# Altium schematic symbol library 74xx.SchLib: 239 symbols (part 2 of 3)
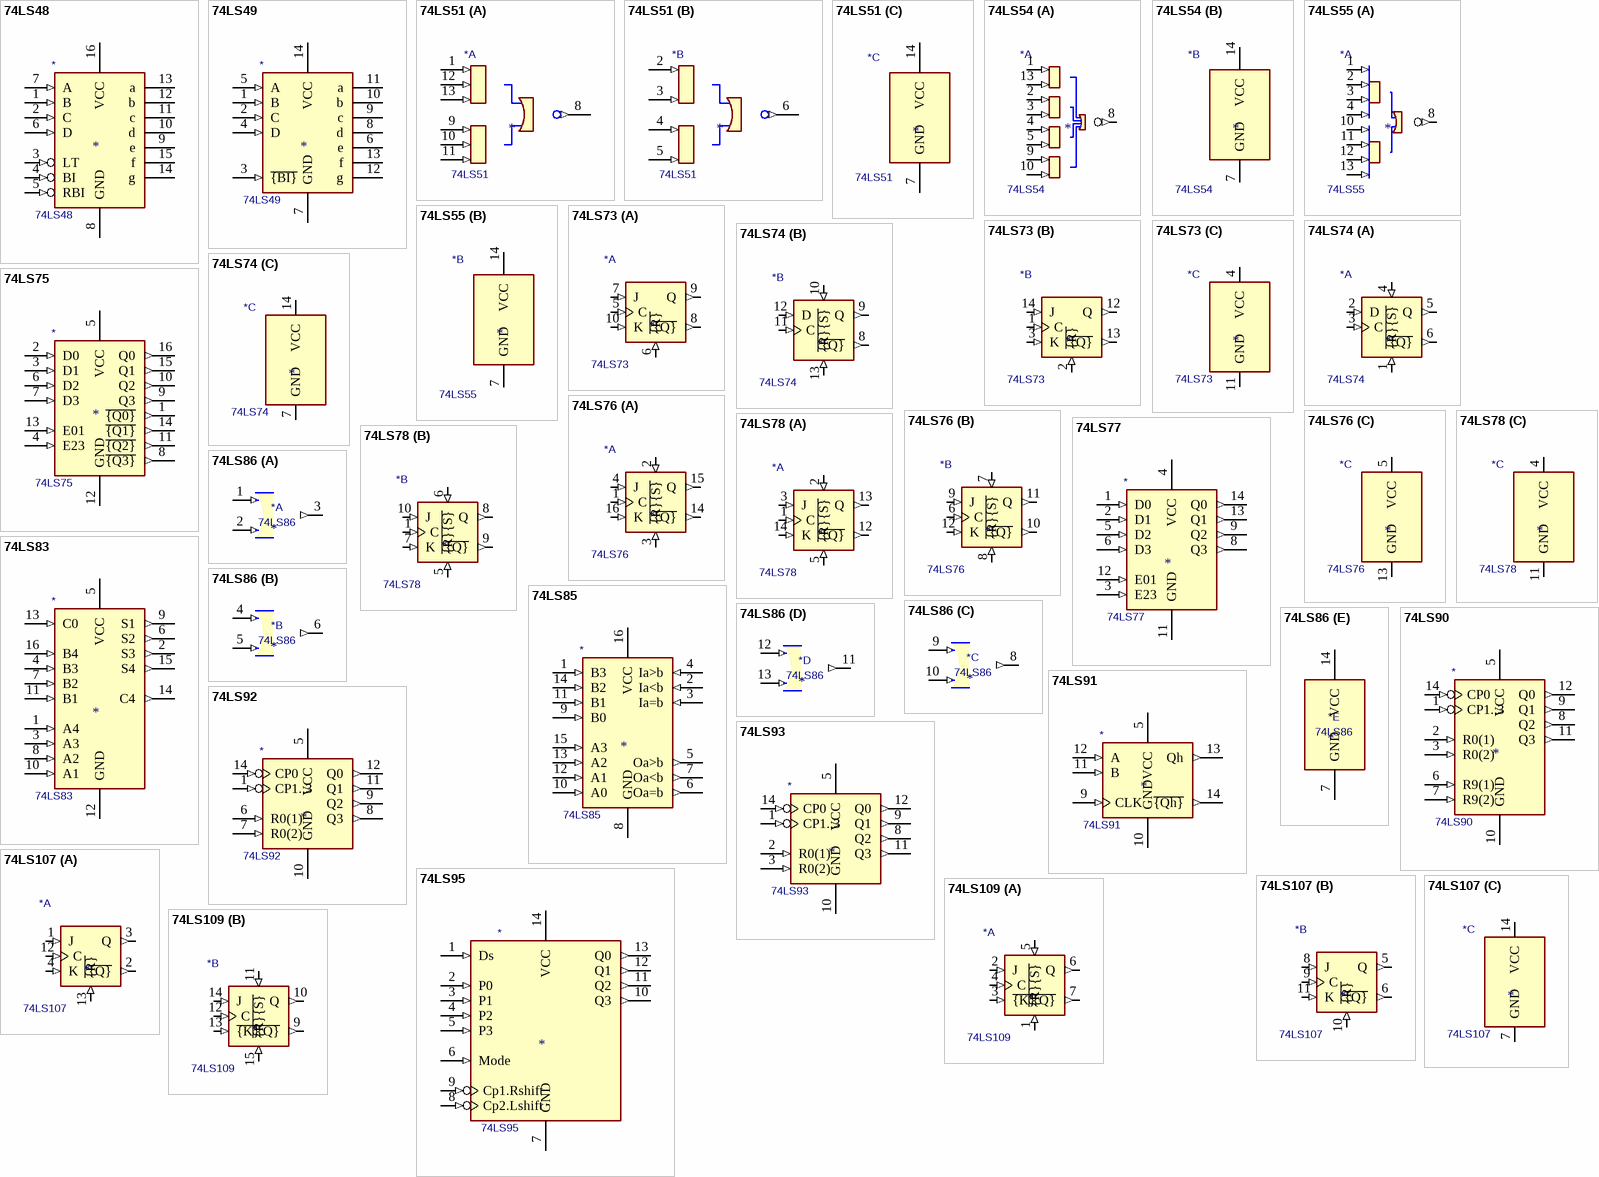
[diagram p14: symbols 74LS48 to 74LS109]

## 74LS83
designator *  value 74LS83
ki_keywords: TTL ADD ARITH ALU; ki_description: 4-bit Full Adder; ki_fp_filters: DIP?16*; Supplier: http://www.ti.com/lit/gpn/sn74LS83
pins: 1 A4 (in), 2 S3 (out), 3 A3 (in), 4 B3 (in), 5 VCC (power), 6 S2 (out), 7 B2 (in), 8 A2 (in), 9 S1 (out), 10 A1 (in), 11 B1 (in), 12 GND (power), 13 C0 (in), 14 C4 (out), 15 S4 (out), 16 B4 (in)

## 74LS85
designator *  value 74LS85
ki_keywords: TTL COMP ARITH; ki_description: 4-bit Comparator; ki_fp_filters: DIP?16*; Supplier: http://www.ti.com/lit/gpn/sn74LS85
pins: 1 B3 (in), 2 Ia<b (in), 3 Ia=b (in), 4 Ia>b (in), 5 Oa>b (out), 6 Oa=b (out), 7 Oa<b (out), 8 GND (power), 9 B0 (in), 10 A0 (in), 11 B1 (in), 12 A1 (in), 13 A2 (in), 14 B2 (in), 15 A3 (in), 16 VCC (power)

## 74LS86
designator *  value 74LS86
ki_keywords: TTL XOR2; ki_description: Quad 2-input XOR; ki_fp_filters: DIP*W7.62mm*; Supplier: 74xx/74ls86.pdf
part A pins: 1 (in), 2 (in), 3 (out)
part B pins: 4 (in), 5 (in), 6 (out)
part C pins: 8 (out), 9 (in), 10 (in)
part D pins: 11 (out), 12 (in), 13 (in)
part E pins: 7 GND (power), 14 VCC (power)

## 74LS90
designator *  value 74LS90
ki_keywords: TTL CNT CNT4; ki_description: BCD Counter ( div 2 & div 5 ); ki_fp_filters: DIP?12*; Supplier: http://www.ti.com/lit/gpn/sn74LS90
pins: 1 CP1..3 (in), 2 R0(1) (in), 3 R0(2) (in), 5 VCC (power), 6 R9(1) (in), 7 R9(2) (in), 8 Q2 (out), 9 Q1 (out), 10 GND (power), 11 Q3 (out), 12 Q0 (out), 14 CP0 (in)

## 74LS91
designator *  value 74LS91
ki_keywords: TTL SR SR8; ki_description: 8-bit Serial Register; ki_fp_filters: DIP*W7.62mm*; Supplier: http://www.ti.com/lit/gpn/sn74LS91
pins: 5 VCC (power), 9 CLK (in), 10 GND (power), 11 B (in), 12 A (in), 13 Qh (out), 14 ~{{Qh}} (out)

## 74LS92
designator *  value 74LS92
ki_keywords: TTL CNT CNT4; ki_description: Divide by 12 counter; ki_fp_filters: DIP*W7.62mm*; Supplier: http://www.ti.com/lit/gpn/sn74LS92
pins: 1 CP1..3 (in), 5 VCC (power), 6 R0(1) (in), 7 R0(2) (in), 8 Q3 (out), 9 Q2 (out), 10 GND (power), 11 Q1 (out), 12 Q0 (out), 14 CP0 (in)

## 74LS93
designator *  value 74LS93
ki_keywords: TTL CNT CNT4; ki_description: Divide by 2 & 8 counter; ki_fp_filters: DIP*W7.62mm*; Supplier: http://www.ti.com/lit/gpn/sn74LS93
pins: 1 CP1..3 (in), 2 R0(1) (in), 3 R0(2) (in), 5 VCC (power), 8 Q2 (out), 9 Q1 (out), 10 GND (power), 11 Q3 (out), 12 Q0 (out), 14 CP0 (in)

## 74LS95
designator *  value 74LS95
ki_keywords: TTL SR SR4; ki_description: Shift Register 5-bit (in/out); ki_fp_filters: DIP*W7.62mm*; Supplier: http://www.ti.com/lit/gpn/sn74LS95
pins: 1 Ds (in), 2 P0 (in), 3 P1 (in), 4 P2 (in), 5 P3 (in), 6 Mode (in), 7 GND (power), 8 Cp2.Lshift (in), 9 Cp1.Rshift (in), 10 Q3 (out), 11 Q2 (out), 12 Q1 (out), 13 Q0 (out), 14 VCC (power)

## 74LS107
designator *  value 74LS107
ki_keywords: TTL JK; ki_description: Dual JK Flip-Flop, reset; ki_fp_filters: DIP*W7.62mm*; Supplier: http://www.ti.com/lit/gpn/sn74LS107
part A pins: 1 J (in), 2 ~{{Q}} (out), 3 Q (out), 4 K (in), 12 C (in), 13 ~{{R}} (in)
part B pins: 5 Q (out), 6 ~{{Q}} (out), 8 J (in), 9 C (in), 10 ~{{R}} (in), 11 K (in)
part C pins: 7 GND (power), 14 VCC (power)

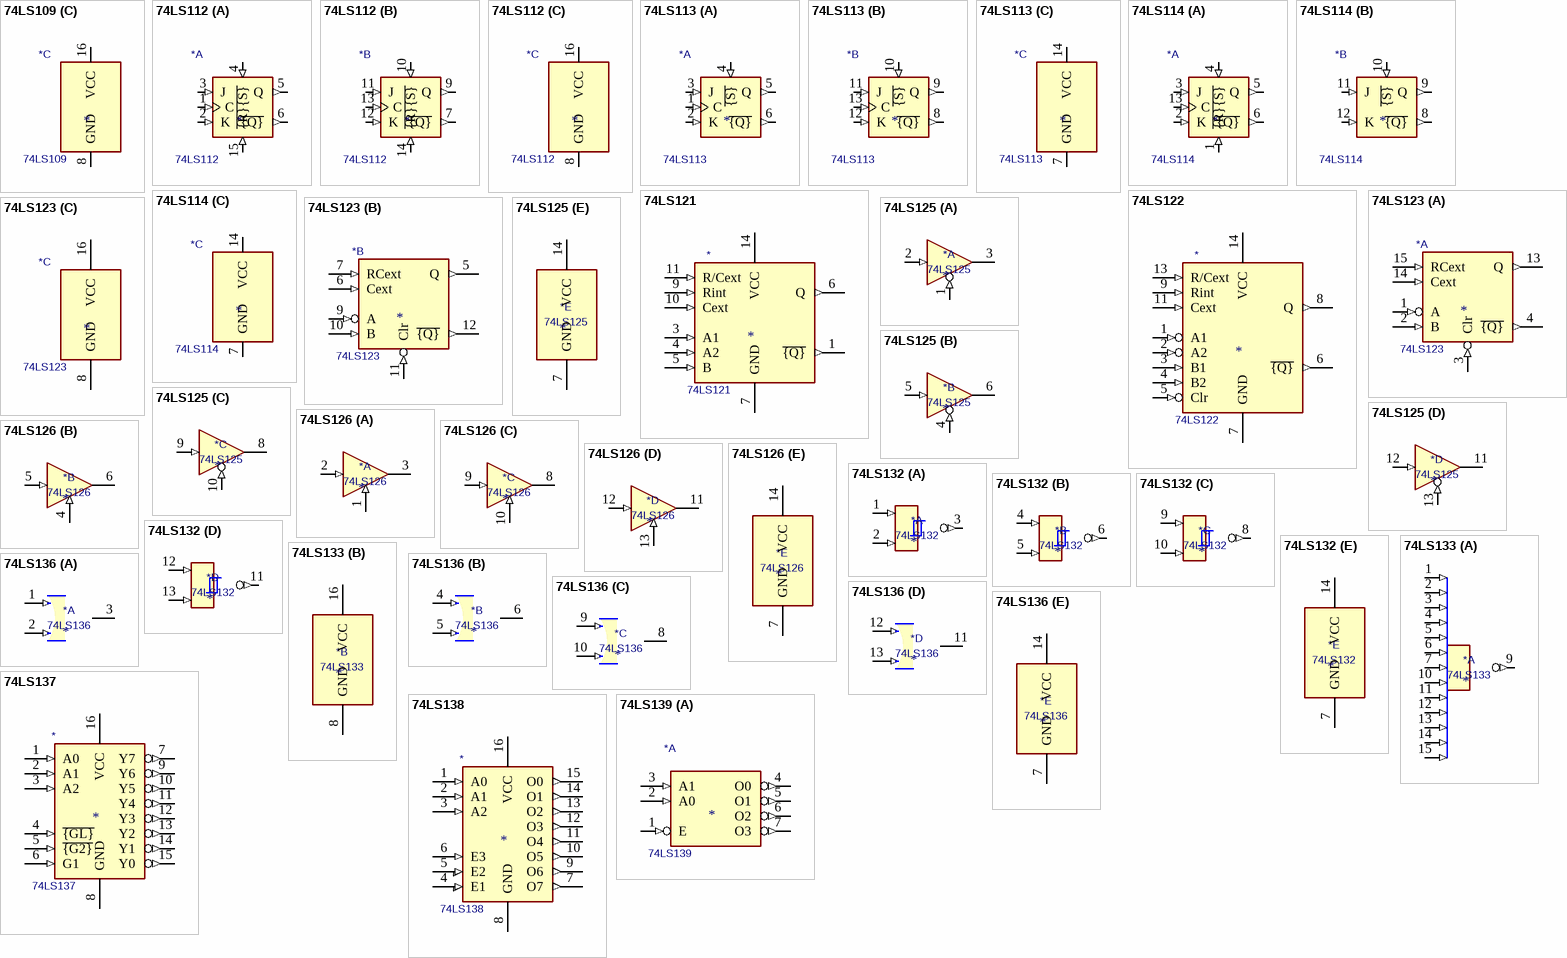
[diagram p8: symbols 74LS109 to 74LS139]

## 74LS109
designator *  value 74LS109
ki_keywords: TTL JK; ki_description: Dual JK Flip-Flop, Set & Reset; ki_fp_filters: DIP*W7.62mm*; Supplier: http://www.ti.com/lit/gpn/sn74LS109
part A pins: 1 ~{{R}} (in), 2 J (in), 3 ~{{K}} (in), 4 C (in), 5 ~{{S}} (in), 6 Q (out), 7 ~{{Q}} (out)
part B pins: 9 ~{{Q}} (out), 10 Q (out), 11 ~{{S}} (in), 12 C (in), 13 ~{{K}} (in), 14 J (in), 15 ~{{R}} (in)
part C pins: 8 GND (power), 16 VCC (power)

## 74LS112
designator *  value 74LS112
ki_keywords: TTL JK; ki_description: dual JK Flip-Flop, Set & Reset; ki_fp_filters: DIP?16*; Supplier: http://www.ti.com/lit/gpn/sn74LS112
part A pins: 1 C (in), 2 K (in), 3 J (in), 4 ~{{S}} (in), 5 Q (out), 6 ~{{Q}} (out), 15 ~{{R}} (in)
part B pins: 7 ~{{Q}} (out), 9 Q (out), 10 ~{{S}} (in), 11 J (in), 12 K (in), 13 C (in), 14 ~{{R}} (in)
part C pins: 8 GND (power), 16 VCC (power)

## 74LS113
designator *  value 74LS113
ki_keywords: TTL JK; ki_description: dual JK flip-flop, Set; ki_fp_filters: DIP*W7.62mm*; Supplier: http://www.ti.com/lit/gpn/sn74LS113
part A pins: 1 C (in), 2 K (in), 3 J (in), 4 ~{{S}} (in), 5 Q (out), 6 ~{{Q}} (out)
part B pins: 8 ~{{Q}} (out), 9 Q (out), 10 ~{{S}} (in), 11 J (in), 12 K (in), 13 C (in)
part C pins: 7 GND (power), 14 VCC (power)

## 74LS114
designator *  value 74LS114
ki_keywords: TTL JK; ki_description: Dual JK flip-flop, common Clock & Reset, Set; ki_fp_filters: DIP*W7.62mm*; Supplier: http://www.ti.com/lit/gpn/sn74LS114
part A pins: 1 ~{{R}} (in), 2 K (in), 3 J (in), 4 ~{{S}} (in), 5 Q (out), 6 ~{{Q}} (out), 13 C (in)
part B pins: 8 ~{{Q}} (out), 9 Q (out), 10 ~{{S}} (in), 11 J (in), 12 K (in)
part C pins: 7 GND (power), 14 VCC (power)

## 74LS121
designator *  value 74LS121
ki_keywords: monostable; ki_description: monostable multivibrator with Schmitt-trigger inputs; ki_fp_filters: DIP*W7.62mm*; Supplier: http://www.ti.com/lit/gpn/sn74121
pins: 1 ~{{Q}} (out), 3 A1 (in), 4 A2 (in), 5 B (in), 6 Q (out), 7 GND (power), 9 Rint (in), 10 Cext (in), 11 R/Cext (in), 14 VCC (power)

## 74LS122
designator *  value 74LS122
ki_keywords: TTL monostable; ki_description: Retriggerable Monostable; ki_fp_filters: DIP*W7.62mm*; Supplier: http://www.ti.com/lit/gpn/sn74LS122
pins: 1 A1 (in), 2 A2 (in), 3 B1 (in), 4 B2 (in), 5 Clr (in), 6 ~{{Q}} (out), 7 GND (power), 8 Q (out), 9 Rint (in), 11 Cext (in), 13 R/Cext (in), 14 VCC (power)

## 74LS123
designator *  value 74LS123
ki_keywords: TTL monostable; ki_description: Dual retriggerable Monostable; ki_fp_filters: DIP?16*; Supplier: http://www.ti.com/lit/gpn/sn74LS123
part A pins: 1 A (in), 2 B (in), 3 Clr (in), 4 ~{{Q}} (out), 13 Q (out), 14 Cext (in), 15 RCext (in)
part B pins: 5 Q (out), 6 Cext (in), 7 RCext (in), 9 A (in), 10 B (in), 11 Clr (in), 12 ~{{Q}} (out)
part C pins: 8 GND (power), 16 VCC (power)

## 74LS125
designator *  value 74LS125
ki_keywords: TTL buffer 3State; ki_description: Quad buffer 3-State outputs; ki_fp_filters: DIP*W7.62mm*; Supplier: http://www.ti.com/lit/gpn/sn74LS125
part A pins: 1 (in), 2 (in), 3 (hiz)
part B pins: 4 (in), 5 (in), 6 (hiz)
part C pins: 8 (hiz), 9 (in), 10 (in)
part D pins: 11 (hiz), 12 (in), 13 (in)
part E pins: 7 GND (power), 14 VCC (power)

## 74LS126
designator *  value 74LS126
ki_keywords: TTL Buffer 3State; ki_description: Quad buffer 3-State outputs; ki_fp_filters: DIP*W7.62mm*; Supplier: http://www.ti.com/lit/gpn/sn74LS126
part A pins: 1 (in), 2 (in), 3 (hiz)
part B pins: 4 (in), 5 (in), 6 (hiz)
part C pins: 8 (hiz), 9 (in), 10 (in)
part D pins: 11 (hiz), 12 (in), 13 (in)
part E pins: 7 GND (power), 14 VCC (power)

## 74LS132
designator *  value 74LS132
ki_keywords: TTL Nand2; ki_description: Quad 2-input NAND Schmitt trigger; ki_fp_filters: DIP*W7.62mm*; Supplier: http://www.ti.com/lit/gpn/sn74LS132
part A pins: 1 (in), 2 (in), 3 (out)
part B pins: 4 (in), 5 (in), 6 (out)
part C pins: 8 (out), 9 (in), 10 (in)
part D pins: 11 (out), 12 (in), 13 (in)
part E pins: 7 GND (power), 14 VCC (power)
1 alternate drawing of the same symbol

## 74LS133
designator *  value 74LS133
ki_keywords: TTL Nand13; ki_description: NAND 13-input; ki_fp_filters: DIP?16*; Supplier: http://www.ti.com/lit/gpn/sn74LS133
part A pins: 1 (in), 2 (in), 3 (in), 4 (in), 5 (in), 6 (in), 7 (in), 9 (out), 10 (in), 11 (in), 12 (in), 13 (in), 14 (in), 15 (in)
part B pins: 8 GND (power), 16 VCC (power)
1 alternate drawing of the same symbol

## 74LS136
designator *  value 74LS136
ki_keywords: TTL XOR2 OpenCol; ki_description: Quad 2-input XOR Open Collector; ki_fp_filters: DIP*W7.62mm*; Supplier: http://www.ti.com/lit/ds/symlink/sn54ls136.pdf
part A pins: 1 (in), 2 (in), 3 (oc)
part B pins: 4 (in), 5 (in), 6 (oc)
part C pins: 8 (oc), 9 (in), 10 (in)
part D pins: 11 (oc), 12 (in), 13 (in)
part E pins: 7 GND (power), 14 VCC (power)

## 74LS137
designator *  value 74LS137
ki_keywords: TTL DECOD8 DECOD; ki_description: Decoder 3 to 8, address latches; ki_fp_filters: DIP?16*; Supplier: http://www.ti.com/lit/gpn/sn74LS137
pins: 1 A0 (in), 2 A1 (in), 3 A2 (in), 4 ~{{GL}} (in), 5 ~{{G2}} (in), 6 G1 (in), 7 Y7 (out), 8 GND (power), 9 Y6 (out), 10 Y5 (out), 11 Y4 (out), 12 Y3 (out), 13 Y2 (out), 14 Y1 (out), 15 Y0 (out), 16 VCC (power)

## 74LS138
designator *  value 74LS138
ki_keywords: TTL DECOD DECOD8; ki_description: Decoder 3 to 8 active low outputs; ki_fp_filters: DIP?16*; Supplier: http://www.ti.com/lit/gpn/sn74LS138
pins: 1 A0 (in), 2 A1 (in), 3 A2 (in), 4 E1 (in), 5 E2 (in), 6 E3 (in), 7 O7 (out), 8 GND (power), 9 O6 (out), 10 O5 (out), 11 O4 (out), 12 O3 (out), 13 O2 (out), 14 O1 (out), 15 O0 (out), 16 VCC (power)

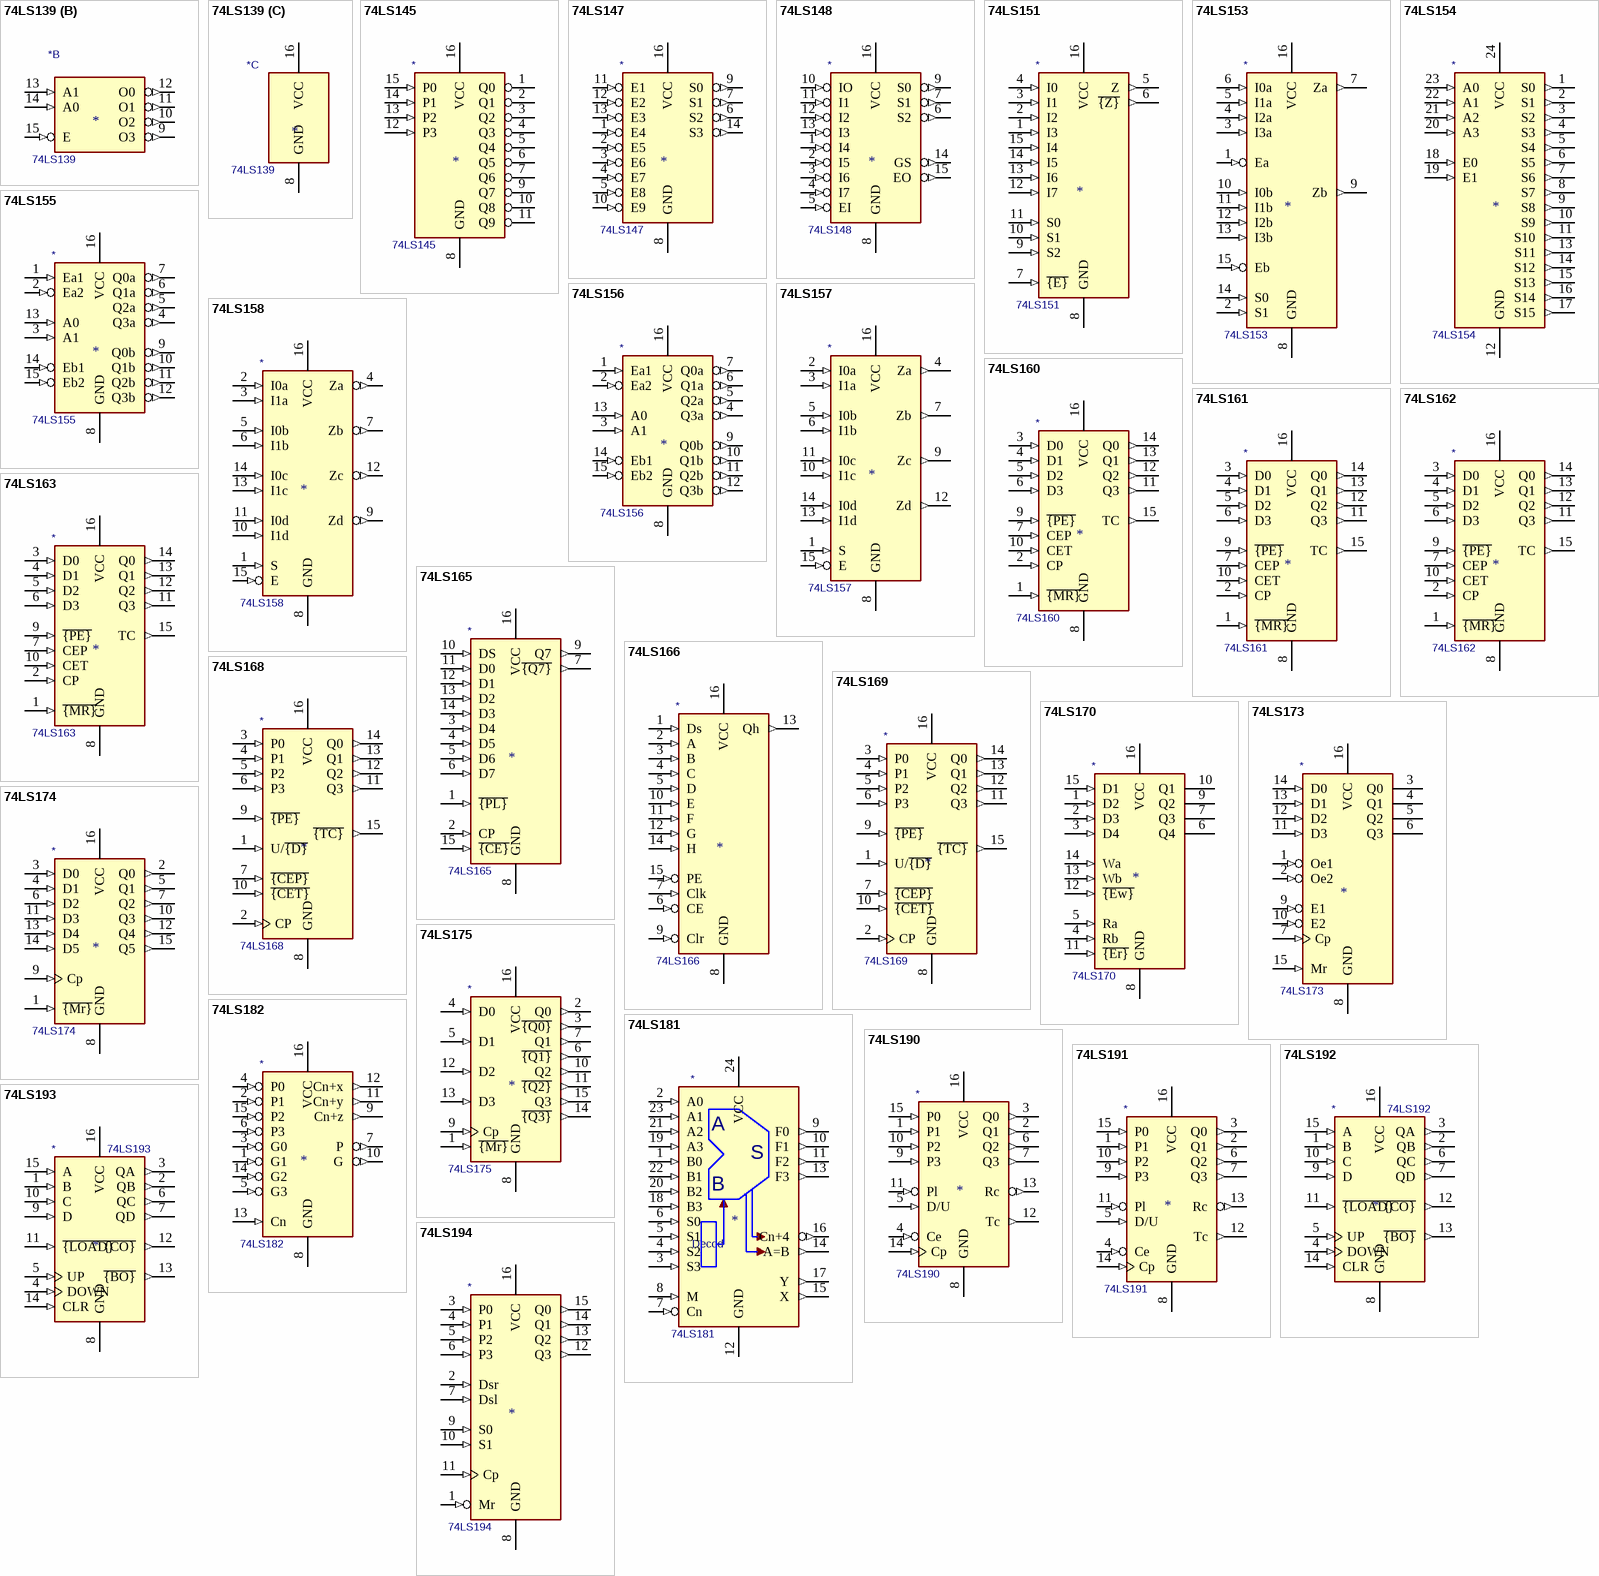
[diagram p9: symbols 74LS139 to 74LS194]

## 74LS139
designator *  value 74LS139
ki_keywords: TTL DECOD4; ki_description: Dual Decoder 1 of 4, Active low outputs; ki_fp_filters: DIP?16*; Supplier: http://www.ti.com/lit/ds/symlink/sn74ls139a.pdf
part A pins: 1 E (in), 2 A0 (in), 3 A1 (in), 4 O0 (out), 5 O1 (out), 6 O2 (out), 7 O3 (out)
part B pins: 9 O3 (out), 10 O2 (out), 11 O1 (out), 12 O0 (out), 13 A1 (in), 14 A0 (in), 15 E (in)
part C pins: 8 GND (power), 16 VCC (power)

## 74LS145
designator *  value 74LS145
ki_keywords: TTL DECOD10 OpenColl; ki_description: Decoder 1 to 10, Open Collector; ki_fp_filters: DIP?16*; Supplier: http://www.ti.com/lit/gpn/sn74LS145
pins: 1 Q0 (oc), 2 Q1 (oc), 3 Q2 (oc), 4 Q3 (oc), 5 Q4 (oc), 6 Q5 (oc), 7 Q6 (oc), 8 GND (power), 9 Q7 (oc), 10 Q8 (oc), 11 Q9 (oc), 12 P3 (in), 13 P2 (in), 14 P1 (in), 15 P0 (in), 16 VCC (power)

## 74LS147
designator *  value 74LS147
ki_keywords: TTL ENCOD; ki_description: Priority Encoder, 10 to 4; ki_fp_filters: DIP?16*; Supplier: http://www.ti.com/lit/gpn/sn74LS147
pins: 1 E4 (in), 2 E5 (in), 3 E6 (in), 4 E7 (in), 5 E8 (in), 6 S2 (out), 7 S1 (out), 8 GND (power), 9 S0 (out), 10 E9 (in), 11 E1 (in), 12 E2 (in), 13 E3 (in), 14 S3 (out), 16 VCC (power)

## 74LS148
designator *  value 74LS148
ki_keywords: TTL ENCOD; ki_description: Priority Encoder 3 to 8 cascadable; ki_fp_filters: DIP?16*; Supplier: http://www.ti.com/lit/gpn/sn74LS148
pins: 1 I4 (in), 2 I5 (in), 3 I6 (in), 4 I7 (in), 5 EI (in), 6 S2 (out), 7 S1 (out), 8 GND (power), 9 S0 (out), 10 IO (in), 11 I1 (in), 12 I2 (in), 13 I3 (in), 14 GS (out), 15 EO (out), 16 VCC (power)

## 74LS151
designator *  value 74LS151
ki_keywords: TTL MUX8; ki_description: Multiplexer 8 to 1; ki_fp_filters: DIP?16*; Supplier: http://www.ti.com/lit/gpn/sn74LS151
pins: 1 I3 (in), 2 I2 (in), 3 I1 (in), 4 I0 (in), 5 Z (out), 6 ~{{Z}} (out), 7 ~{{E}} (in), 8 GND (power), 9 S2 (in), 10 S1 (in), 11 S0 (in), 12 I7 (in), 13 I6 (in), 14 I5 (in), 15 I4 (in), 16 VCC (power)

## 74LS153
designator *  value 74LS153
ki_keywords: TTL Mux4; ki_description: Dual Multiplexer 4 to 1; ki_fp_filters: DIP?16*; Supplier: http://www.ti.com/lit/gpn/sn74LS153
pins: 1 Ea (in), 2 S1 (in), 3 I3a (in), 4 I2a (in), 5 I1a (in), 6 I0a (in), 7 Za (out), 8 GND (power), 9 Zb (out), 10 I0b (in), 11 I1b (in), 12 I2b (in), 13 I3b (in), 14 S0 (in), 15 Eb (in), 16 VCC (power)

## 74LS154
designator *  value 74LS154
ki_keywords: TTL DECOD16 DECOD; ki_description: Decoder 4 to 16; ki_fp_filters: DIP?24*; Supplier: http://www.ti.com/lit/gpn/sn74LS154
pins: 1 S0 (out), 2 S1 (out), 3 S2 (out), 4 S3 (out), 5 S4 (out), 6 S5 (out), 7 S6 (out), 8 S7 (out), 9 S8 (out), 10 S9 (out), 11 S10 (out), 12 GND (power), 13 S11 (out), 14 S12 (out), 15 S13 (out), 16 S14 (out), 17 S15 (out), 18 E0 (in), 19 E1 (in), 20 A3 (in), 21 A2 (in), 22 A1 (in), 23 A0 (in), 24 VCC (power)

## 74LS155
designator *  value 74LS155
ki_keywords: TTL DECOD8 DECOD4 DEMUX4 DEMUX8 DEMUX DECOD; ki_description: Dual 2 to 4 lines Decoder/Demultiplexer; ki_fp_filters: DIP?16*; Supplier: http://www.ti.com/lit/gpn/sn74LS155
pins: 1 Ea1 (in), 2 Ea2 (in), 3 A1 (in), 4 Q3a (out), 5 Q2a (out), 6 Q1a (out), 7 Q0a (out), 8 GND (power), 9 Q0b (out), 10 Q1b (out), 11 Q2b (out), 12 Q3b (out), 13 A0 (in), 14 Eb1 (in), 15 Eb2 (in), 16 VCC (power)

## 74LS156
designator *  value 74LS156
ki_keywords: TTL DECOD8 DECOD4 DEMUX4 DEMUX8 OpenCol; ki_description: Dual 2 to 4 lines Decoder/Demultiplexer, Open Collector; ki_fp_filters: DIP?16*; Supplier: http://www.ti.com/lit/gpn/sn74LS156
pins: 1 Ea1 (in), 2 Ea2 (in), 3 A1 (in), 4 Q3a (out), 5 Q2a (out), 6 Q1a (out), 7 Q0a (out), 8 GND (power), 9 Q0b (out), 10 Q1b (out), 11 Q2b (out), 12 Q3b (out), 13 A0 (in), 14 Eb1 (in), 15 Eb2 (in), 16 VCC (power)

## 74LS157
designator *  value 74LS157
ki_keywords: TTL MUX MUX2; ki_description: Quad 2 to 1 line Multiplexer; ki_fp_filters: DIP?16*; Supplier: http://www.ti.com/lit/gpn/sn74LS157
pins: 1 S (in), 2 I0a (in), 3 I1a (in), 4 Za (out), 5 I0b (in), 6 I1b (in), 7 Zb (out), 8 GND (power), 9 Zc (out), 10 I1c (in), 11 I0c (in), 12 Zd (out), 13 I1d (in), 14 I0d (in), 15 E (in), 16 VCC (power)

## 74LS158
designator *  value 74LS158
ki_keywords: TTL Mux MUX2; ki_description: Quad 2 to 1 multiplexer; ki_fp_filters: DIP?16*; Supplier: http://www.ti.com/lit/gpn/sn74LS158
pins: 1 S (in), 2 I0a (in), 3 I1a (in), 4 Za (out), 5 I0b (in), 6 I1b (in), 7 Zb (out), 8 GND (power), 9 Zd (out), 10 I1d (in), 11 I0d (in), 12 Zc (out), 13 I1c (in), 14 I0c (in), 15 E (in), 16 VCC (power)

## 74LS160
designator *  value 74LS160
ki_keywords: TTL CNT CNT4; ki_description: Synchronous 4-bit programmable decimal Counter; ki_fp_filters: DIP?16*; Supplier: http://www.ti.com/lit/gpn/sn74LS160
pins: 1 ~{{MR}} (in), 2 CP (in), 3 D0 (in), 4 D1 (in), 5 D2 (in), 6 D3 (in), 7 CEP (in), 8 GND (power), 9 ~{{PE}} (in), 10 CET (in), 11 Q3 (out), 12 Q2 (out), 13 Q1 (out), 14 Q0 (out), 15 TC (out), 16 VCC (power)

## 74LS161
designator *  value 74LS161
ki_keywords: TTL CNT CNT4; ki_description: Synchronous 4-bit programmable binary Counter; ki_fp_filters: DIP?16*; Supplier: http://www.ti.com/lit/gpn/sn74LS161
pins: 1 ~{{MR}} (in), 2 CP (in), 3 D0 (in), 4 D1 (in), 5 D2 (in), 6 D3 (in), 7 CEP (in), 8 GND (power), 9 ~{{PE}} (in), 10 CET (in), 11 Q3 (out), 12 Q2 (out), 13 Q1 (out), 14 Q0 (out), 15 TC (out), 16 VCC (power)

## 74LS162
designator *  value 74LS162
ki_keywords: TTL CNT CNT4; ki_description: Synchronous 4-bit programmable decimal Counter; ki_fp_filters: DIP?16*; Supplier: http://www.ti.com/lit/gpn/sn74LS162
pins: 1 ~{{MR}} (in), 2 CP (in), 3 D0 (in), 4 D1 (in), 5 D2 (in), 6 D3 (in), 7 CEP (in), 8 GND (power), 9 ~{{PE}} (in), 10 CET (in), 11 Q3 (out), 12 Q2 (out), 13 Q1 (out), 14 Q0 (out), 15 TC (out), 16 VCC (power)

## 74LS163
designator *  value 74LS163
ki_keywords: TTL CNT CNT4; ki_description: Synchronous 4-bit programmable binary Counter; ki_fp_filters: DIP?16*; Supplier: http://www.ti.com/lit/gpn/sn74LS163
pins: 1 ~{{MR}} (in), 2 CP (in), 3 D0 (in), 4 D1 (in), 5 D2 (in), 6 D3 (in), 7 CEP (in), 8 GND (power), 9 ~{{PE}} (in), 10 CET (in), 11 Q3 (out), 12 Q2 (out), 13 Q1 (out), 14 Q0 (out), 15 TC (out), 16 VCC (power)

## 74LS165
designator *  value 74LS165
ki_keywords: TTL SR SR8; ki_description: Shift Register 8-bit, parallel load; ki_fp_filters: DIP?16* SO*16*3.9x9.9mm*P1.27mm* SSOP*16*5.3x6.2mm*P0.65mm* TSSOP*16*4.4x5mm*P0.65*; Supplier: https://www.ti.com/lit/ds/symlink/sn74ls165a.pdf
pins: 1 ~{{PL}} (in), 2 CP (in), 3 D4 (in), 4 D5 (in), 5 D6 (in), 6 D7 (in), 7 ~{{Q7}} (out), 8 GND (power), 9 Q7 (out), 10 DS (in), 11 D0 (in), 12 D1 (in), 13 D2 (in), 14 D3 (in), 15 ~{{CE}} (in), 16 VCC (power)

## 74LS166
designator *  value 74LS166
ki_keywords: TTL SR SR8; ki_description: Shift Register 8-bit, parallel load; ki_fp_filters: DIP?16*; Supplier: http://www.ti.com/lit/gpn/sn74LS166
pins: 1 Ds (in), 2 A (in), 3 B (in), 4 C (in), 5 D (in), 6 CE (in), 7 Clk (in), 8 GND (power), 9 Clr (in), 10 E (in), 11 F (in), 12 G (in), 13 Qh (out), 14 H (in), 15 PE (in), 16 VCC (power)

## 74LS168
designator *  value 74LS168
ki_keywords: TTL CNT CNT4; ki_description: Synchronous 4-bit Up/Down Decimal counter; ki_fp_filters: DIP?16*; Supplier: http://www.ti.com/lit/gpn/sn74LS168
pins: 1 U/~{{D}} (in), 2 CP (in), 3 P0 (in), 4 P1 (in), 5 P2 (in), 6 P3 (in), 7 ~{{CEP}} (in), 8 GND (power), 9 ~{{PE}} (in), 10 ~{{CET}} (in), 11 Q3 (out), 12 Q2 (out), 13 Q1 (out), 14 Q0 (out), 15 ~{{TC}} (out), 16 VCC (power)

## 74LS169
designator *  value 74LS169
ki_keywords: TTL CNT CNT4; ki_description: Synchronous 4-bit Up/Down binary counter; ki_fp_filters: DIP?16*; Supplier: http://www.ti.com/lit/gpn/sn74LS169
pins: 1 U/~{{D}} (in), 2 CP (in), 3 P0 (in), 4 P1 (in), 5 P2 (in), 6 P3 (in), 7 ~{{CEP}} (in), 8 GND (power), 9 ~{{PE}} (in), 10 ~{{CET}} (in), 11 Q3 (out), 12 Q2 (out), 13 Q1 (out), 14 Q0 (out), 15 ~{{TC}} (out), 16 VCC (power)

## 74LS170
designator *  value 74LS170
ki_keywords: TTL Register OpenCol; ki_description: 4 x 4 Register Files Open Collector; ki_fp_filters: DIP?16*; Supplier: http://www.ti.com/lit/gpn/sn74LS170
pins: 1 D2 (in), 2 D3 (in), 3 D4 (in), 4 Rb (in), 5 Ra (in), 6 Q4 (hiz), 7 Q3 (hiz), 8 GND (power), 9 Q2 (hiz), 10 Q1 (hiz), 11 ~{{Er}} (in), 12 ~{{Ew}} (in), 13 Wb (in), 14 Wa (in), 15 D1 (in), 16 VCC (power)

## 74LS173
designator *  value 74LS173
ki_keywords: TTL REG REG4 3State DFF; ki_description: 4-bit D-type Register, 3 state out; ki_fp_filters: DIP?16*; Supplier: http://www.ti.com/lit/gpn/sn74LS173
pins: 1 Oe1 (in), 2 Oe2 (in), 3 Q0 (hiz), 4 Q1 (hiz), 5 Q2 (hiz), 6 Q3 (hiz), 7 Cp (in), 8 GND (power), 9 E1 (in), 10 E2 (in), 11 D3 (in), 12 D2 (in), 13 D1 (in), 14 D0 (in), 15 Mr (in), 16 VCC (power)

## 74LS174
designator *  value 74LS174
ki_keywords: TTL REG REG6 DFF; ki_description: Hex D-type Flip-Flop, reset; ki_fp_filters: DIP?16*; Supplier: http://www.ti.com/lit/gpn/sn74LS174
pins: 1 ~{{Mr}} (in), 2 Q0 (out), 3 D0 (in), 4 D1 (in), 5 Q1 (out), 6 D2 (in), 7 Q2 (out), 8 GND (power), 9 Cp (in), 10 Q3 (out), 11 D3 (in), 12 Q4 (out), 13 D4 (in), 14 D5 (in), 15 Q5 (out), 16 VCC (power)

## 74LS175
designator *  value 74LS175
ki_keywords: TTL REG REG4 DFF; ki_description: 4-bit D Flip-Flop, reset; ki_fp_filters: DIP?16*; Supplier: http://www.ti.com/lit/gpn/sn74LS175
pins: 1 ~{{Mr}} (in), 2 Q0 (out), 3 ~{{Q0}} (out), 4 D0 (in), 5 D1 (in), 6 ~{{Q1}} (out), 7 Q1 (out), 8 GND (power), 9 Cp (in), 10 Q2 (out), 11 ~{{Q2}} (out), 12 D2 (in), 13 D3 (in), 14 ~{{Q3}} (out), 15 Q3 (out), 16 VCC (power)

## 74LS181
designator *  value 74LS181
ki_keywords: TTL ALU ARITH; ki_description: Arithmetic logic unit; ki_fp_filters: DIP?24*; Supplier: 74xx/74F181.pdf
pins: 1 B0 (in), 2 A0 (in), 3 S3 (in), 4 S2 (in), 5 S1 (in), 6 S0 (in), 7 Cn (in), 8 M (in), 9 F0 (out), 10 F1 (out), 11 F2 (out), 12 GND (power), 13 F3 (out), 14 A=B (out), 15 X (out), 16 Cn+4 (out), 17 Y (out), 18 B3 (in), 19 A3 (in), 20 B2 (in), 21 A2 (in), 22 B1 (in), 23 A1 (in), 24 VCC (power)
text: A; S; B; Decod

## 74LS182
designator *  value 74LS182
ki_keywords: TTL ALU ARITH; ki_description: Carry generator; ki_fp_filters: DIP?16*; Supplier: http://www.ti.com/lit/gpn/sn74LS182
pins: 1 G1 (in), 2 P1 (in), 3 G0 (in), 4 P0 (in), 5 G3 (in), 6 P3 (in), 7 P (out), 8 GND (power), 9 Cn+z (out), 10 G (out), 11 Cn+y (out), 12 Cn+x (out), 13 Cn (in), 14 G2 (in), 15 P2 (in), 16 VCC (power)

## 74LS190
designator *  value 74LS190
ki_keywords: TTL CNT CNT4; ki_description: 4-bit Synchronous Up/Down BCD Counter; ki_fp_filters: DIP?16*; Supplier: http://www.ti.com/lit/gpn/sn74LS190
pins: 1 P1 (in), 2 Q1 (out), 3 Q0 (out), 4 Ce (in), 5 D/U (in), 6 Q2 (out), 7 Q3 (out), 8 GND (power), 9 P3 (in), 10 P2 (in), 11 Pl (in), 12 Tc (out), 13 Rc (out), 14 Cp (in), 15 P0 (in), 16 VCC (power)

## 74LS191
designator *  value 74LS191
ki_keywords: TTL CNT CNT4; ki_description: 4-bit Synchronous Up/Down binary Counter; ki_fp_filters: DIP?16*; Supplier: http://www.ti.com/lit/gpn/sn74LS191
pins: 1 P1 (in), 2 Q1 (out), 3 Q0 (out), 4 Ce (in), 5 D/U (in), 6 Q2 (out), 7 Q3 (out), 8 GND (power), 9 P3 (in), 10 P2 (in), 11 Pl (in), 12 Tc (out), 13 Rc (out), 14 Cp (in), 15 P0 (in), 16 VCC (power)

## 74LS192
designator *  value 74LS192
ki_keywords: TTL CNT CNT4; ki_description: Synchronous 4-bit Up/Down (2 clk) counter; ki_fp_filters: SOIC*3.9x9.9mm*P1.27mm* DIP*W7.62mm*; Supplier: http://www.ti.com/lit/ds/symlink/sn74ls193.pdf
pins: 1 B (in), 2 QB (out), 3 QA (out), 4 DOWN (in), 5 UP (in), 6 QC (out), 7 QD (out), 8 GND (power), 9 D (in), 10 C (in), 11 ~{{LOAD}} (in), 12 ~{{CO}} (out), 13 ~{{BO}} (out), 14 CLR (in), 15 A (in), 16 VCC (power)

## 74LS193
designator *  value 74LS193
ki_keywords: TTL CNT CNT4; ki_description: Synchronous 4-bit Up/Down (2 clk) counter; ki_fp_filters: SOIC*3.9x9.9mm*P1.27mm* DIP*W7.62mm*; Supplier: http://www.ti.com/lit/ds/symlink/sn74ls193.pdf
pins: 1 B (in), 2 QB (out), 3 QA (out), 4 DOWN (in), 5 UP (in), 6 QC (out), 7 QD (out), 8 GND (power), 9 D (in), 10 C (in), 11 ~{{LOAD}} (in), 12 ~{{CO}} (out), 13 ~{{BO}} (out), 14 CLR (in), 15 A (in), 16 VCC (power)

## 74LS194
designator *  value 74LS194
ki_keywords: TTL RS SR4; ki_description: Shift Register 4-bit Bidirectional; ki_fp_filters: DIP?16*; Supplier: http://www.ti.com/lit/gpn/sn74LS194
pins: 1 Mr (in), 2 Dsr (in), 3 P0 (in), 4 P1 (in), 5 P2 (in), 6 P3 (in), 7 Dsl (in), 8 GND (power), 9 S0 (in), 10 S1 (in), 11 Cp (in), 12 Q3 (out), 13 Q2 (out), 14 Q1 (out), 15 Q0 (out), 16 VCC (power)

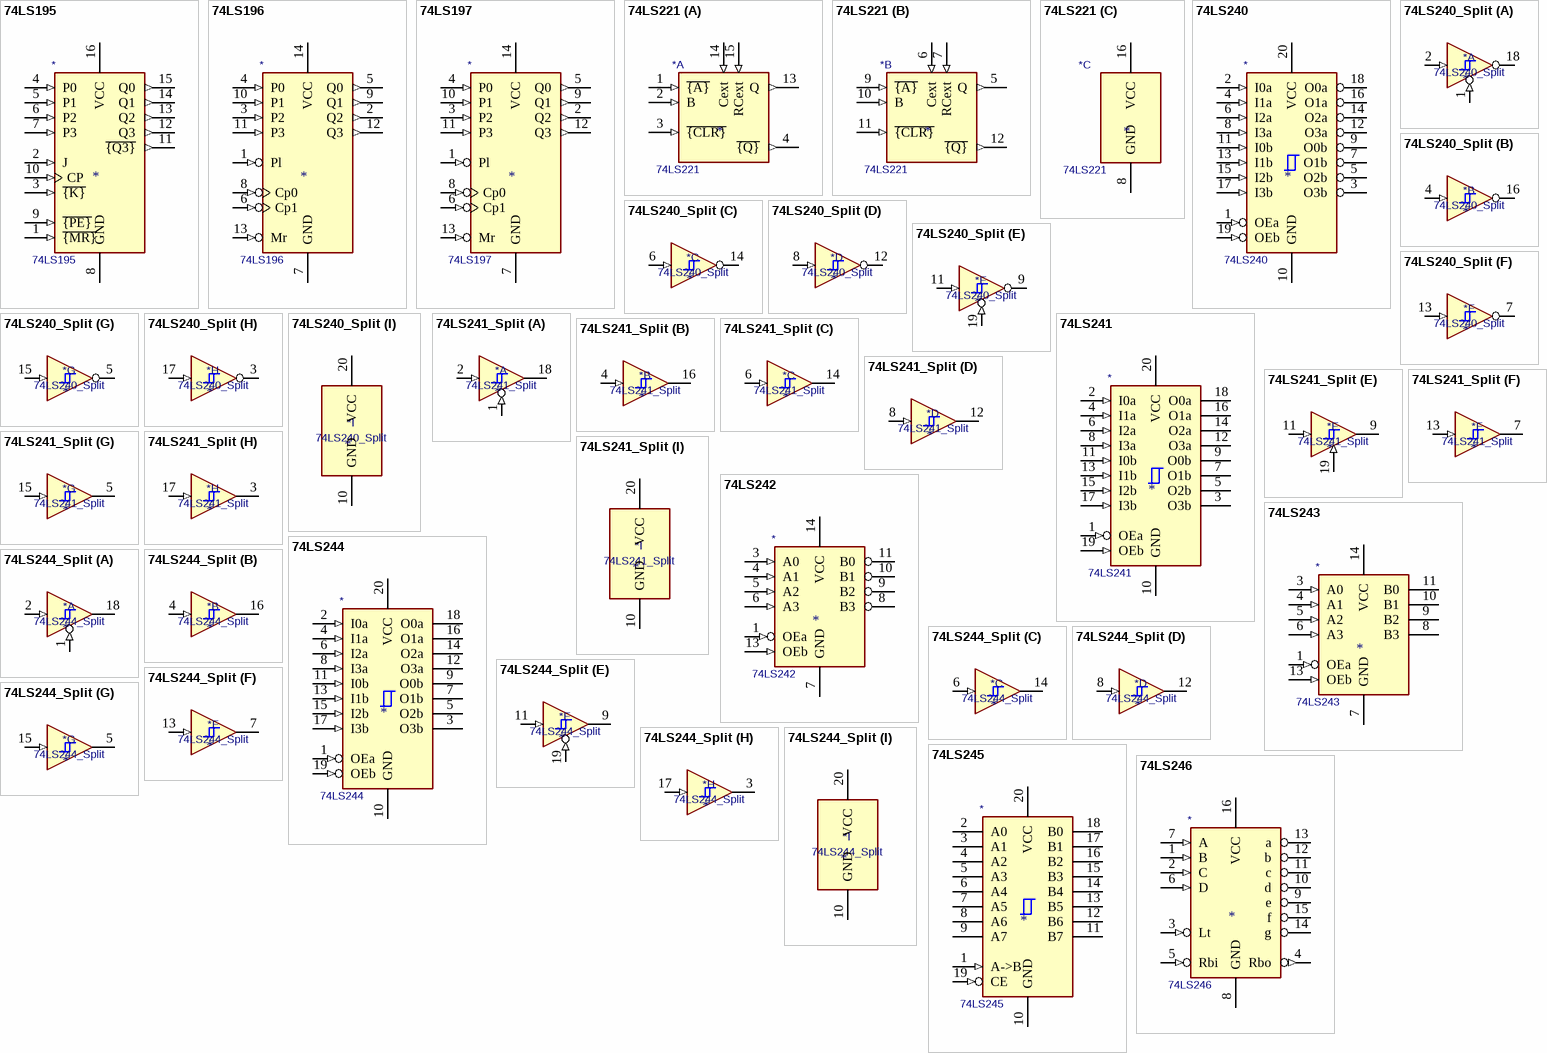
[diagram p10: symbols 74LS195 to 74LS246]

## 74LS195
designator *  value 74LS195
ki_keywords: TTL SR SR4; ki_description: Shift Register 4-bit, parallel; ki_fp_filters: DIP?16*; Supplier: http://www.ti.com/lit/gpn/sn74LS195
pins: 1 ~{{MR}} (in), 2 J (in), 3 ~{{K}} (in), 4 P0 (in), 5 P1 (in), 6 P2 (in), 7 P3 (in), 8 GND (power), 9 ~{{PE}} (in), 10 CP (in), 11 ~{{Q3}} (out), 12 Q3 (out), 13 Q2 (out), 14 Q1 (out), 15 Q0 (out), 16 VCC (power)

## 74LS196
designator *  value 74LS196
ki_keywords: TTL CNT CNT4; ki_description: 4 (3+1)-bit presettable BCD counter; ki_fp_filters: DIP*W7.62mm*; Supplier: http://www.ti.com/lit/gpn/sn74LS196
pins: 1 Pl (in), 2 Q2 (out), 3 P2 (in), 4 P0 (in), 5 Q0 (out), 6 Cp1 (in), 7 GND (power), 8 Cp0 (in), 9 Q1 (out), 10 P1 (in), 11 P3 (in), 12 Q3 (out), 13 Mr (in), 14 VCC (power)

## 74LS197
designator *  value 74LS197
ki_keywords: TTL CNT CNT4; ki_description: 4 (3+1)-bit presettable binary counter; ki_fp_filters: DIP*W7.62mm*; Supplier: http://www.ti.com/lit/gpn/sn74LS197
pins: 1 Pl (in), 2 Q2 (out), 3 P2 (in), 4 P0 (in), 5 Q0 (out), 6 Cp1 (in), 7 GND (power), 8 Cp0 (in), 9 Q1 (out), 10 P1 (in), 11 P3 (in), 12 Q3 (out), 13 Mr (in), 14 VCC (power)

## 74LS221
designator *  value 74LS221
ki_keywords: TTL Monostable; ki_description: Dual Monostable; ki_fp_filters: DIP?16*; Supplier: http://www.ti.com/lit/gpn/sn74LS221
part A pins: 1 ~{{A}} (in), 2 B (in), 3 ~{{CLR}} (in), 4 ~{{Q}} (out), 13 Q (out), 14 Cext (in), 15 RCext (in)
part B pins: 5 Q (out), 6 Cext (in), 7 RCext (in), 9 ~{{A}} (in), 10 B (in), 11 ~{{CLR}} (in), 12 ~{{Q}} (out)
part C pins: 8 GND (power), 16 VCC (power)

## 74LS240
designator *  value 74LS240
ki_keywords: 7400 logic ttl low power schottky; ki_description: Octal Buffer and Line Driver With 3-State Output, active-low enables, inverting outputs; ki_fp_filters: DIP?20*; Supplier: http://www.ti.com/lit/ds/symlink/sn74ls240.pdf
pins: 1 OEa (in), 2 I0a (in), 3 O3b (hiz), 4 I1a (in), 5 O2b (hiz), 6 I2a (in), 7 O1b (hiz), 8 I3a (in), 9 O0b (hiz), 10 GND (power), 11 I0b (in), 12 O3a (hiz), 13 I1b (in), 14 O2a (hiz), 15 I2b (in), 16 O1a (hiz), 17 I3b (in), 18 O0a (hiz), 19 OEb (in), 20 VCC (power)

## 74LS240_Split
designator *  value 74LS240_Split
ki_keywords: 7400 logic ttl low power schottky; ki_description: Octal Buffer and Line Driver With 3-State Output, active-low enables, inverting outputs, split symbol; ki_fp_filters: DIP*W7.62mm* SOIC*7.5x12.8mm*P1.27mm* *SSOP*5.3x7.2mm*P0.65mm*; Supplier: http://www.ti.com/lit/ds/symlink/sn74ls240.pdf
part A pins: 1 (in), 2 (in), 18 (hiz)
part B pins: 4 (in), 16 (hiz)
part C pins: 6 (in), 14 (hiz)
part D pins: 8 (in), 12 (hiz)
part E pins: 9 (hiz), 11 (in), 19 (in)
part F pins: 7 (hiz), 13 (in)
part G pins: 5 (hiz), 15 (in)
part H pins: 3 (hiz), 17 (in)
part I pins: 10 GND (power), 20 VCC (power)

## 74LS241
designator *  value 74LS241
ki_keywords: 7400 logic ttl low power schottky; ki_description: Octal Buffer and Line Driver With 3-State Output, complementary enables, non-inverting outputs; ki_fp_filters: DIP?20*; Supplier: http://www.ti.com/lit/ds/symlink/sn74ls241.pdf
pins: 1 OEa (in), 2 I0a (in), 3 O3b (hiz), 4 I1a (in), 5 O2b (hiz), 6 I2a (in), 7 O1b (hiz), 8 I3a (in), 9 O0b (hiz), 10 GND (power), 11 I0b (in), 12 O3a (hiz), 13 I1b (in), 14 O2a (hiz), 15 I2b (in), 16 O1a (hiz), 17 I3b (in), 18 O0a (hiz), 19 OEb (in), 20 VCC (power)

## 74LS241_Split
designator *  value 74LS241_Split
ki_keywords: 7400 logic ttl low power schottky; ki_description: Octal Buffer and Line Driver With 3-State Output, complementary enables, non-inverting outputs, split symbol; ki_fp_filters: DIP*W7.62mm* SOIC*7.5x12.8mm*P1.27mm* *SSOP*5.3x7.2mm*P0.65mm*; Supplier: http://www.ti.com/lit/ds/symlink/sn74ls241.pdf
part A pins: 1 (in), 2 (in), 18 (hiz)
part B pins: 4 (in), 16 (hiz)
part C pins: 6 (in), 14 (hiz)
part D pins: 8 (in), 12 (hiz)
part E pins: 9 (hiz), 11 (in), 19 (in)
part F pins: 7 (hiz), 13 (in)
part G pins: 5 (hiz), 15 (in)
part H pins: 3 (hiz), 17 (in)
part I pins: 10 GND (power), 20 VCC (power)

## 74LS242
designator *  value 74LS242
ki_keywords: bus 3state; ki_description: quad bus transceiver, inverting 3-state outputs; ki_fp_filters: DIP?12*; Supplier: http://www.ti.com/lit/gpn/sn74LS242
pins: 1 OEa (in), 3 A0 (in), 4 A1 (in), 5 A2 (in), 6 A3 (in), 7 GND (power), 8 B3 (hiz), 9 B2 (hiz), 10 B1 (hiz), 11 B0 (hiz), 13 OEb (in), 14 VCC (power)

## 74LS243
designator *  value 74LS243
ki_keywords: TTL Buffer 3State BUS BIDI; ki_description: 4-bit Bus Transceiver; ki_fp_filters: DIP?12*; Supplier: http://www.ti.com/lit/gpn/sn74LS243
pins: 1 OEa (in), 3 A0 (in), 4 A1 (in), 5 A2 (in), 6 A3 (in), 7 GND (power), 8 B3 (hiz), 9 B2 (hiz), 10 B1 (hiz), 11 B0 (hiz), 13 OEb (in), 14 VCC (power)

## 74LS244
designator *  value 74LS244
ki_keywords: 7400 logic ttl low power schottky; ki_description: Octal Buffer and Line Driver With 3-State Output, active-low enables, non-inverting outputs; ki_fp_filters: DIP?20*; Supplier: http://www.ti.com/lit/ds/symlink/sn74ls244.pdf
pins: 1 OEa (in), 2 I0a (in), 3 O3b (hiz), 4 I1a (in), 5 O2b (hiz), 6 I2a (in), 7 O1b (hiz), 8 I3a (in), 9 O0b (hiz), 10 GND (power), 11 I0b (in), 12 O3a (hiz), 13 I1b (in), 14 O2a (hiz), 15 I2b (in), 16 O1a (hiz), 17 I3b (in), 18 O0a (hiz), 19 OEb (in), 20 VCC (power)

## 74LS244_Split
designator *  value 74LS244_Split
ki_keywords: 7400 logic ttl low power schottky; ki_description: Octal Buffer and Line Driver With 3-State Output, active-low enables, non-inverting outputs, split symbol; ki_fp_filters: DIP*W7.62mm* SOIC*7.5x12.8mm*P1.27mm* *SSOP*5.3x7.2mm*P0.65mm*; Supplier: http://www.ti.com/lit/ds/symlink/sn74ls241.pdf
part A pins: 1 (in), 2 (in), 18 (hiz)
part B pins: 4 (in), 16 (hiz)
part C pins: 6 (in), 14 (hiz)
part D pins: 8 (in), 12 (hiz)
part E pins: 9 (hiz), 11 (in), 19 (in)
part F pins: 7 (hiz), 13 (in)
part G pins: 5 (hiz), 15 (in)
part H pins: 3 (hiz), 17 (in)
part I pins: 10 GND (power), 20 VCC (power)

## 74LS245
designator *  value 74LS245
ki_keywords: TTL BUS 3State; ki_description: Octal BUS Transceivers, 3-State outputs; ki_fp_filters: DIP?20*; Supplier: http://www.ti.com/lit/gpn/sn74LS245
pins: 1 A->B (in), 2 A0 (hiz), 3 A1 (hiz), 4 A2 (hiz), 5 A3 (hiz), 6 A4 (hiz), 7 A5 (hiz), 8 A6 (hiz), 9 A7 (hiz), 10 GND (power), 11 B7 (hiz), 12 B6 (hiz), 13 B5 (hiz), 14 B4 (hiz), 15 B3 (hiz), 16 B2 (hiz), 17 B1 (hiz), 18 B0 (hiz), 19 CE (in), 20 VCC (power)

## 74LS246
designator *  value 74LS246
ki_keywords: TTL DECOD; ki_description: BCD to 7-segment Decoder Open Collector active Low; ki_fp_filters: DIP?16*; Supplier: http://www.ti.com/lit/gpn/sn74LS246
pins: 1 B (in), 2 C (in), 3 Lt (in), 4 Rbo (out), 5 Rbi (in), 6 D (in), 7 A (in), 8 GND (power), 9 e (oc), 10 d (oc), 11 c (oc), 12 b (oc), 13 a (oc), 14 g (oc), 15 f (oc), 16 VCC (power)

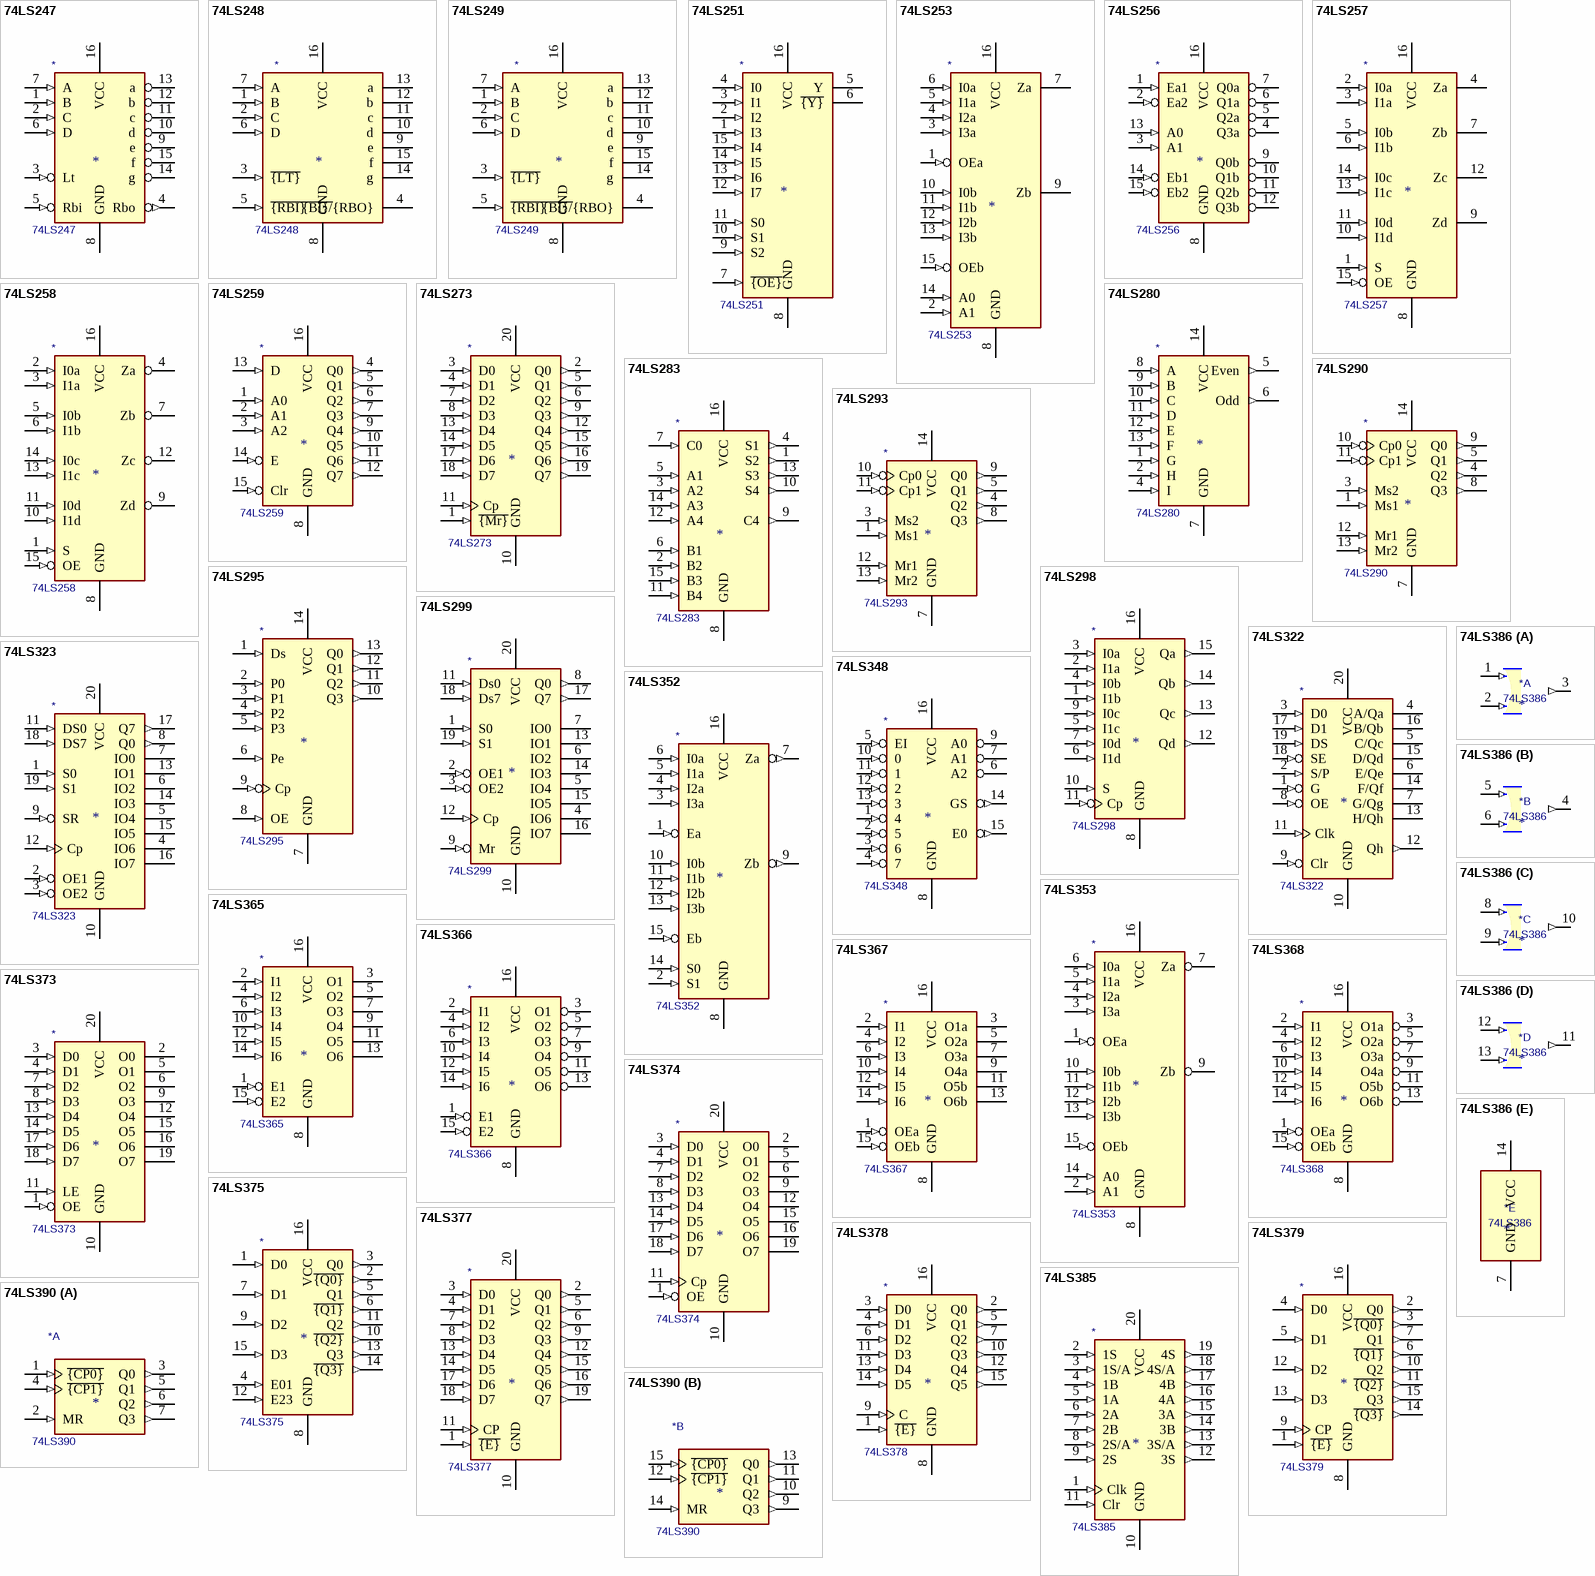
[diagram p11: symbols 74LS247 to 74LS390]

## 74LS247
designator *  value 74LS247
ki_keywords: TTL DECOD; ki_description: BCD to 7 segments Decoder Open Collector active Low; ki_fp_filters: DIP?16*; Supplier: http://www.ti.com/lit/gpn/sn74LS247
pins: 1 B (in), 2 C (in), 3 Lt (in), 4 Rbo (out), 5 Rbi (in), 6 D (in), 7 A (in), 8 GND (power), 9 e (oc), 10 d (oc), 11 c (oc), 12 b (oc), 13 a (oc), 14 g (oc), 15 f (oc), 16 VCC (power)

## 74LS248
designator *  value 74LS248
ki_keywords: TTL DECOD; ki_description: BCD to 7-segment Decoder, Active High; ki_fp_filters: DIP?16*; Supplier: http://www.ti.com/lit/gpn/sn74LS248
pins: 1 B (in), 2 C (in), 3 ~{{LT}} (in), 4 ~{{BI}/}{RBO} (oc), 5 ~{{RBI}} (in), 6 D (in), 7 A (in), 8 GND (power), 9 e (oc), 10 d (oc), 11 c (oc), 12 b (oc), 13 a (oc), 14 g (oc), 15 f (oc), 16 VCC (power)

## 74LS249
designator *  value 74LS249
ki_keywords: TTL DECOD OpenCol; ki_description: BCD to 7-segment Decoder, Open collector, Active High; ki_fp_filters: DIP?16*; Supplier: http://www.ti.com/lit/gpn/sn74LS249
pins: 1 B (in), 2 C (in), 3 ~{{LT}} (in), 4 ~{{BI}/}{RBO} (oc), 5 ~{{RBI}} (in), 6 D (in), 7 A (in), 8 GND (power), 9 e (oc), 10 d (oc), 11 c (oc), 12 b (oc), 13 a (oc), 14 g (oc), 15 f (oc), 16 VCC (power)

## 74LS251
designator *  value 74LS251
ki_keywords: TTL MUX MUX8 3State; ki_description: Multiplexer 8 to 1, 3-state Outputs; ki_fp_filters: DIP?16*; Supplier: http://www.ti.com/lit/gpn/sn74LS251
pins: 1 I3 (in), 2 I2 (in), 3 I1 (in), 4 I0 (in), 5 Y (hiz), 6 ~{{Y}} (hiz), 7 ~{{OE}} (in), 8 GND (power), 9 S2 (in), 10 S1 (in), 11 S0 (in), 12 I7 (in), 13 I6 (in), 14 I5 (in), 15 I4 (in), 16 VCC (power)

## 74LS253
designator *  value 74LS253
ki_keywords: TTL MUX MUX4 3State; ki_description: Dual Multiplexer 4 to 1, 3-State Outputs; ki_fp_filters: DIP?16*; Supplier: http://www.ti.com/lit/gpn/sn74LS253
pins: 1 OEa (in), 2 A1 (in), 3 I3a (in), 4 I2a (in), 5 I1a (in), 6 I0a (in), 7 Za (hiz), 8 GND (power), 9 Zb (hiz), 10 I0b (in), 11 I1b (in), 12 I2b (in), 13 I3b (in), 14 A0 (in), 15 OEb (in), 16 VCC (power)

## 74LS256
designator *  value 74LS256
ki_keywords: latch; ki_description: dual 4-bit addressable latch; ki_fp_filters: DIP?16*; Supplier: http://www.ti.com/lit/gpn/sn74LS256
pins: 1 Ea1 (in), 2 Ea2 (in), 3 A1 (in), 4 Q3a (hiz), 5 Q2a (hiz), 6 Q1a (hiz), 7 Q0a (hiz), 8 GND (power), 9 Q0b (hiz), 10 Q1b (hiz), 11 Q2b (hiz), 12 Q3b (hiz), 13 A0 (in), 14 Eb1 (in), 15 Eb2 (in), 16 VCC (power)

## 74LS257
designator *  value 74LS257
ki_keywords: TTL MUX MUX2; ki_description: Quad 2 to 1 Multiplexer; ki_fp_filters: DIP?16*; Supplier: http://www.ti.com/lit/gpn/sn74LS257
pins: 1 S (in), 2 I0a (in), 3 I1a (in), 4 Za (hiz), 5 I0b (in), 6 I1b (in), 7 Zb (hiz), 8 GND (power), 9 Zd (hiz), 10 I1d (in), 11 I0d (in), 12 Zc (hiz), 13 I1c (in), 14 I0c (in), 15 OE (in), 16 VCC (power)

## 74LS258
designator *  value 74LS258
ki_keywords: TTL MUX MUX2; ki_description: Quad 2 to 1 Multiplexer, inverting; ki_fp_filters: DIP?16*; Supplier: http://www.ti.com/lit/gpn/sn74LS258
pins: 1 S (in), 2 I0a (in), 3 I1a (in), 4 Za (hiz), 5 I0b (in), 6 I1b (in), 7 Zb (hiz), 8 GND (power), 9 Zd (hiz), 10 I1d (in), 11 I0d (in), 12 Zc (hiz), 13 I1c (in), 14 I0c (in), 15 OE (in), 16 VCC (power)

## 74LS259
designator *  value 74LS259
ki_keywords: TTL REG DFF; ki_description: 8-bit addressable latch; ki_fp_filters: DIP?16*; Supplier: http://www.ti.com/lit/gpn/sn74LS259
pins: 1 A0 (in), 2 A1 (in), 3 A2 (in), 4 Q0 (out), 5 Q1 (out), 6 Q2 (out), 7 Q3 (out), 8 GND (power), 9 Q4 (out), 10 Q5 (out), 11 Q6 (out), 12 Q7 (out), 13 D (in), 14 E (in), 15 Clr (in), 16 VCC (power)

## 74LS273
designator *  value 74LS273
ki_keywords: TTL DFF DFF8; ki_description: 8-bit D Flip-Flop, reset; ki_fp_filters: DIP?20* SO?20* SOIC?20*; Supplier: http://www.ti.com/lit/gpn/sn74LS273
pins: 1 ~{{Mr}} (in), 2 Q0 (out), 3 D0 (in), 4 D1 (in), 5 Q1 (out), 6 Q2 (out), 7 D2 (in), 8 D3 (in), 9 Q3 (out), 10 GND (power), 11 Cp (in), 12 Q4 (out), 13 D4 (in), 14 D5 (in), 15 Q5 (out), 16 Q6 (out), 17 D6 (in), 18 D7 (in), 19 Q7 (out), 20 VCC (power)

## 74LS280
designator *  value 74LS280
ki_keywords: TTL ALU Arith; ki_description: Parity Generator/Checker; ki_fp_filters: DIP*W7.62mm*; Supplier: http://www.ti.com/lit/gpn/sn74LS280
pins: 1 G (in), 2 H (in), 3 NC (in) hidden, 4 I (in), 5 Even (out), 6 Odd (out), 7 GND (power), 8 A (in), 9 B (in), 10 C (in), 11 D (in), 12 E (in), 13 F (in), 14 VCC (power)

## 74LS283
designator *  value 74LS283
ki_keywords: TTL ADD Arith ALU; ki_description: 4-bit full Adder; ki_fp_filters: DIP?16*; Supplier: http://www.ti.com/lit/gpn/sn74LS283
pins: 1 S2 (out), 2 B2 (in), 3 A2 (in), 4 S1 (out), 5 A1 (in), 6 B1 (in), 7 C0 (in), 8 GND (power), 9 C4 (out), 10 S4 (out), 11 B4 (in), 12 A4 (in), 13 S3 (out), 14 A3 (in), 15 B3 (in), 16 VCC (power)

## 74LS290
designator *  value 74LS290
ki_keywords: TTL CNT CNT4; ki_description: 4-bit BCD counter; ki_fp_filters: DIP?12*; Supplier: http://www.ti.com/lit/gpn/sn74LS290
pins: 1 Ms1 (in), 3 Ms2 (in), 4 Q2 (out), 5 Q1 (out), 7 GND (power), 8 Q3 (out), 9 Q0 (out), 10 Cp0 (in), 11 Cp1 (in), 12 Mr1 (in), 13 Mr2 (in), 14 VCC (power)

## 74LS293
designator *  value 74LS293
ki_keywords: TTL CNT CNT4; ki_description: 4-bit binary counter; ki_fp_filters: DIP?12*; Supplier: http://www.ti.com/lit/gpn/sn74LS293
pins: 1 Ms1 (in), 3 Ms2 (in), 4 Q2 (out), 5 Q1 (out), 7 GND (power), 8 Q3 (out), 9 Q0 (out), 10 Cp0 (in), 11 Cp1 (in), 12 Mr1 (in), 13 Mr2 (in), 14 VCC (power)

## 74LS295
designator *  value 74LS295
ki_keywords: register; ki_description: 4-bit bidirectional register, 3-state outputs; ki_fp_filters: DIP*W7.62mm*; Supplier: http://www.ti.com/lit/gpn/sn74LS295
pins: 1 Ds (in), 2 P0 (in), 3 P1 (in), 4 P2 (in), 5 P3 (in), 6 Pe (in), 7 GND (power), 8 OE (in), 9 Cp (in), 10 Q3 (out), 11 Q2 (out), 12 Q1 (out), 13 Q0 (out), 14 VCC (power)

## 74LS298
designator *  value 74LS298
ki_keywords: TTL MUX MUX2; ki_description: Quad 2 to 1 multiplexer with storage; ki_fp_filters: DIP?16*; Supplier: http://www.ti.com/lit/gpn/sn74LS298
pins: 1 I1b (in), 2 I1a (in), 3 I0a (in), 4 I0b (in), 5 I1c (in), 6 I1d (in), 7 I0d (in), 8 GND (power), 9 I0c (in), 10 S (in), 11 Cp (in), 12 Qd (out), 13 Qc (out), 14 Qb (out), 15 Qa (out), 16 VCC (power)

## 74LS299
designator *  value 74LS299
ki_keywords: TTL REG SR SR8; ki_description: 8-bit Universal shift/storage Register; ki_fp_filters: DIP?20*; Supplier: http://www.ti.com/lit/gpn/sn74LS299
pins: 1 S0 (in), 2 OE1 (in), 3 OE2 (in), 4 IO6 (hiz), 5 IO4 (hiz), 6 IO2 (hiz), 7 IO0 (hiz), 8 Q0 (out), 9 Mr (in), 10 GND (power), 11 Ds0 (in), 12 Cp (in), 13 IO1 (hiz), 14 IO3 (hiz), 15 IO5 (hiz), 16 IO7 (hiz), 17 Q7 (out), 18 Ds7 (in), 19 S1 (in), 20 VCC (power)

## 74LS322
designator *  value 74LS322
ki_keywords: register; ki_description: 8-bit shift register, sign extend, 3-state outputs; ki_fp_filters: DIP?20*; Supplier: http://www.ti.com/lit/gpn/sn74LS322
pins: 1 G (in), 2 S/P (in), 3 D0 (in), 4 A/Qa (hiz), 5 C/Qc (hiz), 6 E/Qe (hiz), 7 G/Qg (hiz), 8 OE (in), 9 Clr (in), 10 GND (power), 11 Clk (in), 12 Qh (out), 13 H/Qh (hiz), 14 F/Qf (hiz), 15 D/Qd (hiz), 16 B/Qb (hiz), 17 D1 (in), 18 SE (in), 19 DS (in), 20 VCC (power)

## 74LS323
designator *  value 74LS323
ki_keywords: TTL REG SR SR8; ki_description: 8-bit Universal Shift/Storage Register; ki_fp_filters: DIP?20*; Supplier: http://www.ti.com/lit/gpn/sn74LS323
pins: 1 S0 (in), 2 OE1 (in), 3 OE2 (in), 4 IO6 (hiz), 5 IO4 (hiz), 6 IO2 (hiz), 7 IO0 (hiz), 8 Q0 (out), 9 SR (in), 10 GND (power), 11 DS0 (in), 12 Cp (in), 13 IO1 (hiz), 14 IO3 (hiz), 15 IO5 (hiz), 16 IO7 (hiz), 17 Q7 (out), 18 DS7 (in), 19 S1 (in), 20 VCC (power)

## 74LS348
designator *  value 74LS348
ki_keywords: TTL ENCOD Arith; ki_description: 8 to 3 lines Priority Encoder; ki_fp_filters: DIP?16*; Supplier: http://www.ti.com/lit/gpn/sn74LS348
pins: 1 4 (in), 2 5 (in), 3 6 (in), 4 7 (in), 5 EI (in), 6 A2 (hiz), 7 A1 (hiz), 8 GND (power), 9 A0 (hiz), 10 0 (in), 11 1 (in), 12 2 (in), 13 3 (in), 14 GS (out), 15 E0 (out), 16 VCC (power)

## 74LS352
designator *  value 74LS352
ki_keywords: TTL Mux MUX4; ki_description: Dual 4 to 1 line Multiplexer; ki_fp_filters: DIP?16*; Supplier: http://www.ti.com/lit/gpn/sn74LS352
pins: 1 Ea (in), 2 S1 (in), 3 I3a (in), 4 I2a (in), 5 I1a (in), 6 I0a (in), 7 Za (out), 8 GND (power), 9 Zb (out), 10 I0b (in), 11 I1b (in), 12 I2b (in), 13 I3b (in), 14 S0 (in), 15 Eb (in), 16 VCC (power)

## 74LS353
designator *  value 74LS353
ki_keywords: TTL MUX MUX2; ki_description: Dual 4 to 1 line Multiplexer, inverter; ki_fp_filters: DIP?16*; Supplier: http://www.ti.com/lit/gpn/sn74LS353
pins: 1 OEa (in), 2 A1 (in), 3 I3a (in), 4 I2a (in), 5 I1a (in), 6 I0a (in), 7 Za (hiz), 8 GND (power), 9 Zb (hiz), 10 I0b (in), 11 I1b (in), 12 I2b (in), 13 I3b (in), 14 A0 (in), 15 OEb (in), 16 VCC (power)

## 74LS365
designator *  value 74LS365
ki_keywords: TTL Buffer BUS 3State; ki_description: Hex Bus Driver, 3-State Outputs; ki_fp_filters: DIP?16*; Supplier: http://www.ti.com/lit/gpn/sn74LS365
pins: 1 E1 (in), 2 I1 (in), 3 O1 (hiz), 4 I2 (in), 5 O2 (hiz), 6 I3 (in), 7 O3 (hiz), 8 GND (power), 9 O4 (hiz), 10 I4 (in), 11 O5 (hiz), 12 I5 (in), 13 O6 (hiz), 14 I6 (in), 15 E2 (in), 16 VCC (power)

## 74LS366
designator *  value 74LS366
ki_keywords: TTL Buffer BUS 3State; ki_description: Hex Bus Driver inverter, 3-state outputs; ki_fp_filters: DIP?16*; Supplier: http://www.ti.com/lit/gpn/sn74LS366
pins: 1 E1 (in), 2 I1 (in), 3 O1 (hiz), 4 I2 (in), 5 O2 (hiz), 6 I3 (in), 7 O3 (hiz), 8 GND (power), 9 O4 (hiz), 10 I4 (in), 11 O5 (hiz), 12 I5 (in), 13 O6 (hiz), 14 I6 (in), 15 E2 (in), 16 VCC (power)

## 74LS367
designator *  value 74LS367
ki_keywords: TTL Buffer BUS 3State; ki_description: Hex Bus Driver 3-state outputs; ki_fp_filters: DIP?16*; Supplier: http://www.ti.com/lit/gpn/sn74LS367
pins: 1 OEa (in), 2 I1 (in), 3 O1a (hiz), 4 I2 (in), 5 O2a (hiz), 6 I3 (in), 7 O3a (hiz), 8 GND (power), 9 O4a (hiz), 10 I4 (in), 11 O5b (hiz), 12 I5 (in), 13 O6b (hiz), 14 I6 (in), 15 OEb (in), 16 VCC (power)

## 74LS368
designator *  value 74LS368
ki_keywords: TTL Buffer BUS 3State; ki_description: Hex Bus Driver inverter, 3-state outputs; ki_fp_filters: DIP?16*; Supplier: http://www.ti.com/lit/gpn/sn74LS368
pins: 1 OEa (in), 2 I1 (in), 3 O1a (hiz), 4 I2 (in), 5 O2a (hiz), 6 I3 (in), 7 O3a (hiz), 8 GND (power), 9 O4a (hiz), 10 I4 (in), 11 O5b (hiz), 12 I5 (in), 13 O6b (hiz), 14 I6 (in), 15 OEb (in), 16 VCC (power)

## 74LS373
designator *  value 74LS373
ki_keywords: TTL REG DFF DFF8 LATCH; ki_description: 8-bit Latch, 3-state outputs; ki_fp_filters: DIP?20* SOIC?20* SO?20* SSOP?20* TSSOP?20*; Supplier: http://www.ti.com/lit/gpn/sn74LS373
pins: 1 OE (in), 2 O0 (hiz), 3 D0 (in), 4 D1 (in), 5 O1 (hiz), 6 O2 (hiz), 7 D2 (in), 8 D3 (in), 9 O3 (hiz), 10 GND (power), 11 LE (in), 12 O4 (hiz), 13 D4 (in), 14 D5 (in), 15 O5 (hiz), 16 O6 (hiz), 17 D6 (in), 18 D7 (in), 19 O7 (hiz), 20 VCC (power)

## 74LS374
designator *  value 74LS374
ki_keywords: TTL DFF DFF8 REG 3State; ki_description: 8-bit Register, 3-state outputs; ki_fp_filters: DIP?20* SOIC?20* SO?20*; Supplier: http://www.ti.com/lit/gpn/sn74LS374
pins: 1 OE (in), 2 O0 (hiz), 3 D0 (in), 4 D1 (in), 5 O1 (hiz), 6 O2 (hiz), 7 D2 (in), 8 D3 (in), 9 O3 (hiz), 10 GND (power), 11 Cp (in), 12 O4 (hiz), 13 D4 (in), 14 D5 (in), 15 O5 (hiz), 16 O6 (hiz), 17 D6 (in), 18 D7 (in), 19 O7 (hiz), 20 VCC (power)

## 74LS375
designator *  value 74LS375
ki_keywords: TTL DFF DFF4 Latch; ki_description: 4-bit Latch; ki_fp_filters: DIP?16*; Supplier: http://www.ti.com/lit/gpn/sn74LS375
pins: 1 D0 (in), 2 ~{{Q0}} (out), 3 Q0 (out), 4 E01 (in), 5 Q1 (out), 6 ~{{Q1}} (out), 7 D1 (in), 8 GND (power), 9 D2 (in), 10 ~{{Q2}} (out), 11 Q2 (out), 12 E23 (in), 13 Q3 (out), 14 ~{{Q3}} (out), 15 D3 (in), 16 VCC (power)

## 74LS377
designator *  value 74LS377
ki_keywords: TTL REG DFF DFF8; ki_description: 8-bit Register; ki_fp_filters: DIP?20*; Supplier: http://www.ti.com/lit/gpn/sn74LS377
pins: 1 ~{{E}} (in), 2 Q0 (out), 3 D0 (in), 4 D1 (in), 5 Q1 (out), 6 Q2 (out), 7 D2 (in), 8 D3 (in), 9 Q3 (out), 10 GND (power), 11 CP (in), 12 Q4 (out), 13 D4 (in), 14 D5 (in), 15 Q5 (out), 16 Q6 (out), 17 D6 (in), 18 D7 (in), 19 Q7 (out), 20 VCC (power)

## 74LS378
designator *  value 74LS378
ki_keywords: TTL REG DFF DFF6; ki_description: 6-bit Register; ki_fp_filters: DIP?16*; Supplier: http://www.ti.com/lit/gpn/sn74LS378
pins: 1 ~{{E}} (in), 2 Q0 (out), 3 D0 (in), 4 D1 (in), 5 Q1 (out), 6 D2 (in), 7 Q2 (out), 8 GND (power), 9 C (in), 10 Q3 (out), 11 D3 (in), 12 Q4 (out), 13 D4 (in), 14 D5 (in), 15 Q5 (out), 16 VCC (power)

## 74LS379
designator *  value 74LS379
ki_keywords: TTL REG DFF DFF4; ki_description: 4-bit Register; ki_fp_filters: DIP?16*; Supplier: http://www.ti.com/lit/gpn/sn74LS379
pins: 1 ~{{E}} (in), 2 Q0 (out), 3 ~{{Q0}} (out), 4 D0 (in), 5 D1 (in), 6 ~{{Q1}} (out), 7 Q1 (out), 8 GND (power), 9 CP (in), 10 Q2 (out), 11 ~{{Q2}} (out), 12 D2 (in), 13 D3 (in), 14 ~{{Q3}} (out), 15 Q3 (out), 16 VCC (power)

## 74LS385
designator *  value 74LS385
ki_keywords: TTL ADD Arith ALU; ki_description: Quad serial Adder; ki_fp_filters: DIP?20*; Supplier: http://www.ti.com/lit/gpn/sn74LS385
pins: 1 Clk (in), 2 1S (in), 3 1S/A (in), 4 1B (in), 5 1A (in), 6 2A (in), 7 2B (in), 8 2S/A (in), 9 2S (in), 10 GND (power), 11 Clr (in), 12 3S (out), 13 3S/A (out), 14 3B (out), 15 3A (out), 16 4A (out), 17 4B (out), 18 4S/A (out), 19 4S (out), 20 VCC (power)

## 74LS386
designator *  value 74LS386
ki_keywords: TTL XOR2; ki_description: Quad 2-input XOR; ki_fp_filters: DIP*W7.62mm*; Supplier: http://www.ti.com/lit/gpn/sn74LS386
part A pins: 1 (in), 2 (in), 3 (out)
part B pins: 4 (out), 5 (in), 6 (in)
part C pins: 8 (in), 9 (in), 10 (out)
part D pins: 11 (out), 12 (in), 13 (in)
part E pins: 7 GND (power), 14 VCC (power)

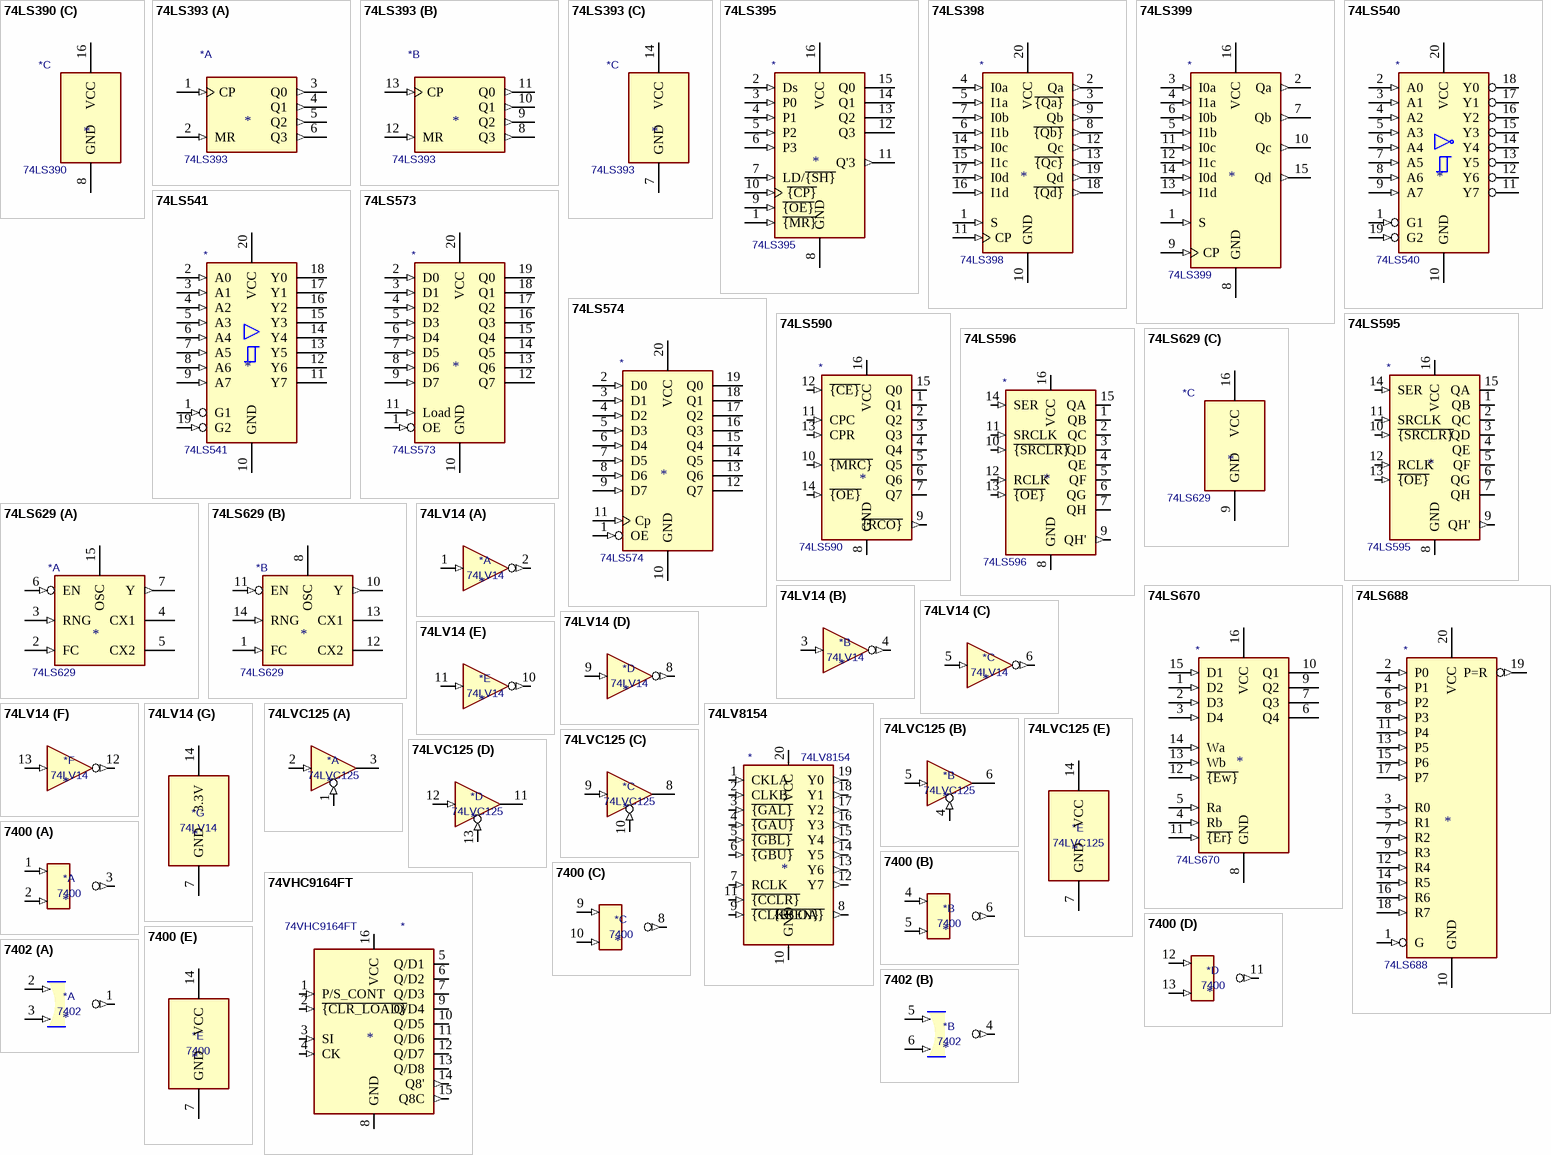
[diagram p12: symbols 74LS390 to 7402]

## 74LS390
designator *  value 74LS390
ki_keywords: TTL CNT CNT4; ki_description: Dual BCD 4-bit counter; ki_fp_filters: DIP?16*; Supplier: http://www.ti.com/lit/gpn/sn74LS390
part A pins: 1 ~{{CP0}} (in), 2 MR (in), 3 Q0 (out), 4 ~{{CP1}} (in), 5 Q1 (out), 6 Q2 (out), 7 Q3 (out)
part B pins: 9 Q3 (out), 10 Q2 (out), 11 Q1 (out), 12 ~{{CP1}} (in), 13 Q0 (out), 14 MR (in), 15 ~{{CP0}} (in)
part C pins: 8 GND (power), 16 VCC (power)

## 74LS393
designator *  value 74LS393
ki_keywords: TTL CNT CNT4; ki_description: Dual BCD 4-bit counter; ki_fp_filters: DIP*W7.62mm*; Supplier: 74xx\74LS393.pdf
part A pins: 1 CP (in), 2 MR (in), 3 Q0 (out), 4 Q1 (out), 5 Q2 (out), 6 Q3 (out)
part B pins: 8 Q3 (out), 9 Q2 (out), 10 Q1 (out), 11 Q0 (out), 12 MR (in), 13 CP (in)
part C pins: 7 GND (power), 14 VCC (power)

## 74LS395
designator *  value 74LS395
ki_keywords: TTL SR SR4 REG 3State; ki_description: 4-bit universal shift register, 3-state outputs; ki_fp_filters: DIP?16*; Supplier: http://www.ti.com/lit/gpn/sn74LS395
pins: 1 ~{{MR}} (in), 2 Ds (in), 3 P0 (in), 4 P1 (in), 5 P2 (in), 6 P3 (in), 7 LD/~{{SH}} (in), 8 GND (power), 9 ~{{OE}} (in), 10 ~{{CP}} (in), 11 Q'3 (out), 12 Q3 (hiz), 13 Q2 (hiz), 14 Q1 (hiz), 15 Q0 (hiz), 16 VCC (power)

## 74LS398
designator *  value 74LS398
ki_keywords: TTL MUX MUX2 3State; ki_description: Quad 2 to 1 line Multiplexer, 3-state outputs; ki_fp_filters: DIP?20*; Supplier: http://www.ti.com/lit/gpn/sn74LS398
pins: 1 S (in), 2 Qa (out), 3 ~{{Qa}} (out), 4 I0a (in), 5 I1a (in), 6 I1b (in), 7 I0b (in), 8 ~{{Qb}} (out), 9 Qb (out), 10 GND (power), 11 CP (in), 12 Qc (out), 13 ~{{Qc}} (out), 14 I0c (in), 15 I1c (in), 16 I1d (in), 17 I0d (in), 18 ~{{Qd}} (out), 19 Qd (out), 20 VCC (power)

## 74LS399
designator *  value 74LS399
ki_keywords: TTL MUX MUX2; ki_description: Quad 2 to 1 line multiplexer with storage; ki_fp_filters: DIP?16*; Supplier: http://www.ti.com/lit/gpn/sn74LS399
pins: 1 S (in), 2 Qa (out), 3 I0a (in), 4 I1a (in), 5 I1b (in), 6 I0b (in), 7 Qb (out), 8 GND (power), 9 CP (in), 10 Qc (out), 11 I0c (in), 12 I1c (in), 13 I1d (in), 14 I0d (in), 15 Qd (out), 16 VCC (power)

## 74LS540
designator *  value 74LS540
ki_keywords: BUFFER BUS TTL 3State; ki_description: 8-bit Buffer/Line driver Inverter, 3-state outputs; ki_fp_filters: DIP?20*; Supplier: http://www.ti.com/lit/gpn/sn74LS540
pins: 1 G1 (in), 2 A0 (in), 3 A1 (in), 4 A2 (in), 5 A3 (in), 6 A4 (in), 7 A5 (in), 8 A6 (in), 9 A7 (in), 10 GND (power), 11 Y7 (hiz), 12 Y6 (hiz), 13 Y5 (hiz), 14 Y4 (hiz), 15 Y3 (hiz), 16 Y2 (hiz), 17 Y1 (hiz), 18 Y0 (hiz), 19 G2 (in), 20 VCC (power)

## 74LS541
designator *  value 74LS541
ki_keywords: TTL BUFFER 3State BUS; ki_description: 8-bit Buffer/Line Driver 3-state outputs; ki_fp_filters: DIP?20*; Supplier: http://www.ti.com/lit/gpn/sn74LS541
pins: 1 G1 (in), 2 A0 (in), 3 A1 (in), 4 A2 (in), 5 A3 (in), 6 A4 (in), 7 A5 (in), 8 A6 (in), 9 A7 (in), 10 GND (power), 11 Y7 (hiz), 12 Y6 (hiz), 13 Y5 (hiz), 14 Y4 (hiz), 15 Y3 (hiz), 16 Y2 (hiz), 17 Y1 (hiz), 18 Y0 (hiz), 19 G2 (in), 20 VCC (power)

## 74LS573
designator *  value 74LS573
ki_keywords: TTL DFF DFF8 LATCH 3State; ki_description: 8-bit Latch 3-state outputs; ki_fp_filters: DIP?20*; Supplier: 74xx/74hc573.pdf
pins: 1 OE (in), 2 D0 (in), 3 D1 (in), 4 D2 (in), 5 D3 (in), 6 D4 (in), 7 D5 (in), 8 D6 (in), 9 D7 (in), 10 GND (power), 11 Load (in), 12 Q7 (hiz), 13 Q6 (hiz), 14 Q5 (hiz), 15 Q4 (hiz), 16 Q3 (hiz), 17 Q2 (hiz), 18 Q1 (hiz), 19 Q0 (hiz), 20 VCC (power)

## 74LS574
designator *  value 74LS574
ki_keywords: TTL REG DFF DFF8 3State; ki_description: 8-bit Register, 3-state outputs; ki_fp_filters: DIP?20*; Supplier: http://www.ti.com/lit/gpn/sn74LS574
pins: 1 OE (in), 2 D0 (in), 3 D1 (in), 4 D2 (in), 5 D3 (in), 6 D4 (in), 7 D5 (in), 8 D6 (in), 9 D7 (in), 10 GND (power), 11 Cp (in), 12 Q7 (hiz), 13 Q6 (hiz), 14 Q5 (hiz), 15 Q4 (hiz), 16 Q3 (hiz), 17 Q2 (hiz), 18 Q1 (hiz), 19 Q0 (hiz), 20 VCC (power)

## 74LS590
designator *  value 74LS590
ki_keywords: TTL Counter 3State; ki_description: 8-bit Binary Counter with Output Register 3-State Outputs, DIP-16/SOIC-16/SOIC-16W; ki_fp_filters: DIP*W7.62mm* SOIC*3.9x9.9mm*P1.27mm* TSSOP*4.4x5mm*P0.65mm* SOIC*5.3x10.2mm*P1.27mm* SOIC*7.5x10.3mm*P1.27mm*; Supplier: http://www.ti.com/lit/gpn/sn74ls590
pins: 1 Q1 (hiz), 2 Q2 (hiz), 3 Q3 (hiz), 4 Q4 (hiz), 5 Q5 (hiz), 6 Q6 (hiz), 7 Q7 (hiz), 8 GND (power), 9 ~{{RCO}} (out), 10 ~{{MRC}} (in), 11 CPC (in), 12 ~{{CE}} (in), 13 CPR (in), 14 ~{{OE}} (in), 15 Q0 (hiz), 16 VCC (power)

## 74LS595
designator *  value 74LS595
ki_keywords: TTL SR 3State; ki_description: 8-bit serial in/out Shift Register 3-State Outputs; ki_fp_filters: DIP*W7.62mm* SOIC*3.9x9.9mm*P1.27mm* TSSOP*4.4x5mm*P0.65mm* SOIC*5.3x10.2mm*P1.27mm* SOIC*7.5x10.3mm*P1.27mm*; Supplier: http://www.ti.com/lit/gpn/sn74ls595
pins: 1 QB (hiz), 2 QC (hiz), 3 QD (hiz), 4 QE (hiz), 5 QF (hiz), 6 QG (hiz), 7 QH (hiz), 8 GND (power), 9 QH' (out), 10 ~{{SRCLR}} (in), 11 SRCLK (in), 12 RCLK (in), 13 ~{{OE}} (in), 14 SER (in), 15 QA (hiz), 16 VCC (power)

## 74LS596
designator *  value 74LS596
ki_keywords: HCMOS SR OpenCollector; ki_description: 8-bit serial in/out Shift Register Open Collector outputs; ki_fp_filters: DIP*W7.62mm* SOIC*3.9x9.9mm*P1.27mm* TSSOP*4.4x5mm*P0.65mm* SOIC*5.3x10.2mm*P1.27mm* SOIC*7.5x10.3mm*P1.27mm*; Supplier: http://www.ti.com/lit/gpn/sn74ls596
pins: 1 QB (oc), 2 QC (oc), 3 QD (oc), 4 QE (oc), 5 QF (oc), 6 QG (oc), 7 QH (oc), 8 GND (power), 9 QH' (out), 10 ~{{SRCLR}} (in), 11 SRCLK (in), 12 RCLK (in), 13 ~{{OE}} (in), 14 SER (in), 15 QA (oc), 16 VCC (power)

## 74LS629
designator *  value 74LS629
ki_keywords: VCO; ki_description: dual voltage-controlled oscillator, enable control, range control; ki_fp_filters: DIP?16*; Supplier: http://www.ti.com/lit/gpn/sn74LS629
part A pins: 2 FC (in), 3 RNG (in), 4 CX1, 5 CX2, 6 EN (in), 7 Y (out), 15 OSC
part B pins: 1 FC (in), 8 OSC, 10 Y (out), 11 EN (in), 12 CX2, 13 CX1, 14 RNG (in)
part C pins: 9 GND (power), 16 VCC (power)

## 74LS670
designator *  value 74LS670
ki_keywords: TTL Register 3State; ki_description: 4 x 4 Register Files 3-State Outputs; ki_fp_filters: DIP?16*; Supplier: http://www.ti.com/lit/gpn/sn74LS670
pins: 1 D2 (in), 2 D3 (in), 3 D4 (in), 4 Rb (in), 5 Ra (in), 6 Q4 (hiz), 7 Q3 (hiz), 8 GND (power), 9 Q2 (hiz), 10 Q1 (hiz), 11 ~{{Er}} (in), 12 ~{{Ew}} (in), 13 Wb (in), 14 Wa (in), 15 D1 (in), 16 VCC (power)

## 74LS688
designator *  value 74LS688
ki_keywords: TTL DECOD Arith; ki_description: 8-bit magnitude comparator; ki_fp_filters: DIP?20* SOIC?20* SO?20* TSSOP?20*; Supplier: http://www.ti.com/lit/gpn/sn74LS688
pins: 1 G (in), 2 P0 (in), 3 R0 (in), 4 P1 (in), 5 R1 (in), 6 P2 (in), 7 R2 (in), 8 P3 (in), 9 R3 (in), 10 GND (power), 11 P4 (in), 12 R4 (in), 13 P5 (in), 14 R5 (in), 15 P6 (in), 16 R6 (in), 17 P7 (in), 18 R7 (in), 19 P=R (out), 20 VCC (power)

## 74LV14
designator *  value 74LV14
ki_keywords: TTL not inv; ki_description: Hex Inverter; ki_fp_filters: DIP*W7.62mm*; Supplier: http://www.ti.com/lit/gpn/sn74LV14
part A pins: 1 (in), 2 (out)
part B pins: 3 (in), 4 (out)
part C pins: 5 (in), 6 (out)
part D pins: 8 (out), 9 (in)
part E pins: 10 (out), 11 (in)
part F pins: 12 (out), 13 (in)
part G pins: 7 GND (power), 14 3.3V (power)

## 74LV8154
designator *  value 74LV8154
ki_keywords: counter binary; ki_description: Dual 16-bit binary counter; ki_fp_filters: TSSOP*4.4x6.5mm*P0.65mm* DIP*W7.62mm*; Supplier: http://www.ti.com/lit/ds/symlink/sn74lv8154.pdf
pins: 1 CKLA (in), 2 CLKB (in), 3 ~{{GAL}} (in), 4 ~{{GAU}} (in), 5 ~{{GBL}} (in), 6 ~{{GBU}} (in), 7 RCLK (in), 8 ~{{RCOA}} (out), 9 ~{{CLKBEN}} (in), 10 GND (power), 11 ~{{CCLR}} (in), 12 Y7 (out), 13 Y6 (out), 14 Y5 (out), 15 Y4 (out), 16 Y3 (out), 17 Y2 (out), 18 Y1 (out), 19 Y0 (out), 20 VCC (power)